# Altium schematic symbol library ICs.SchLib: 134 symbols (part 4 of 7)
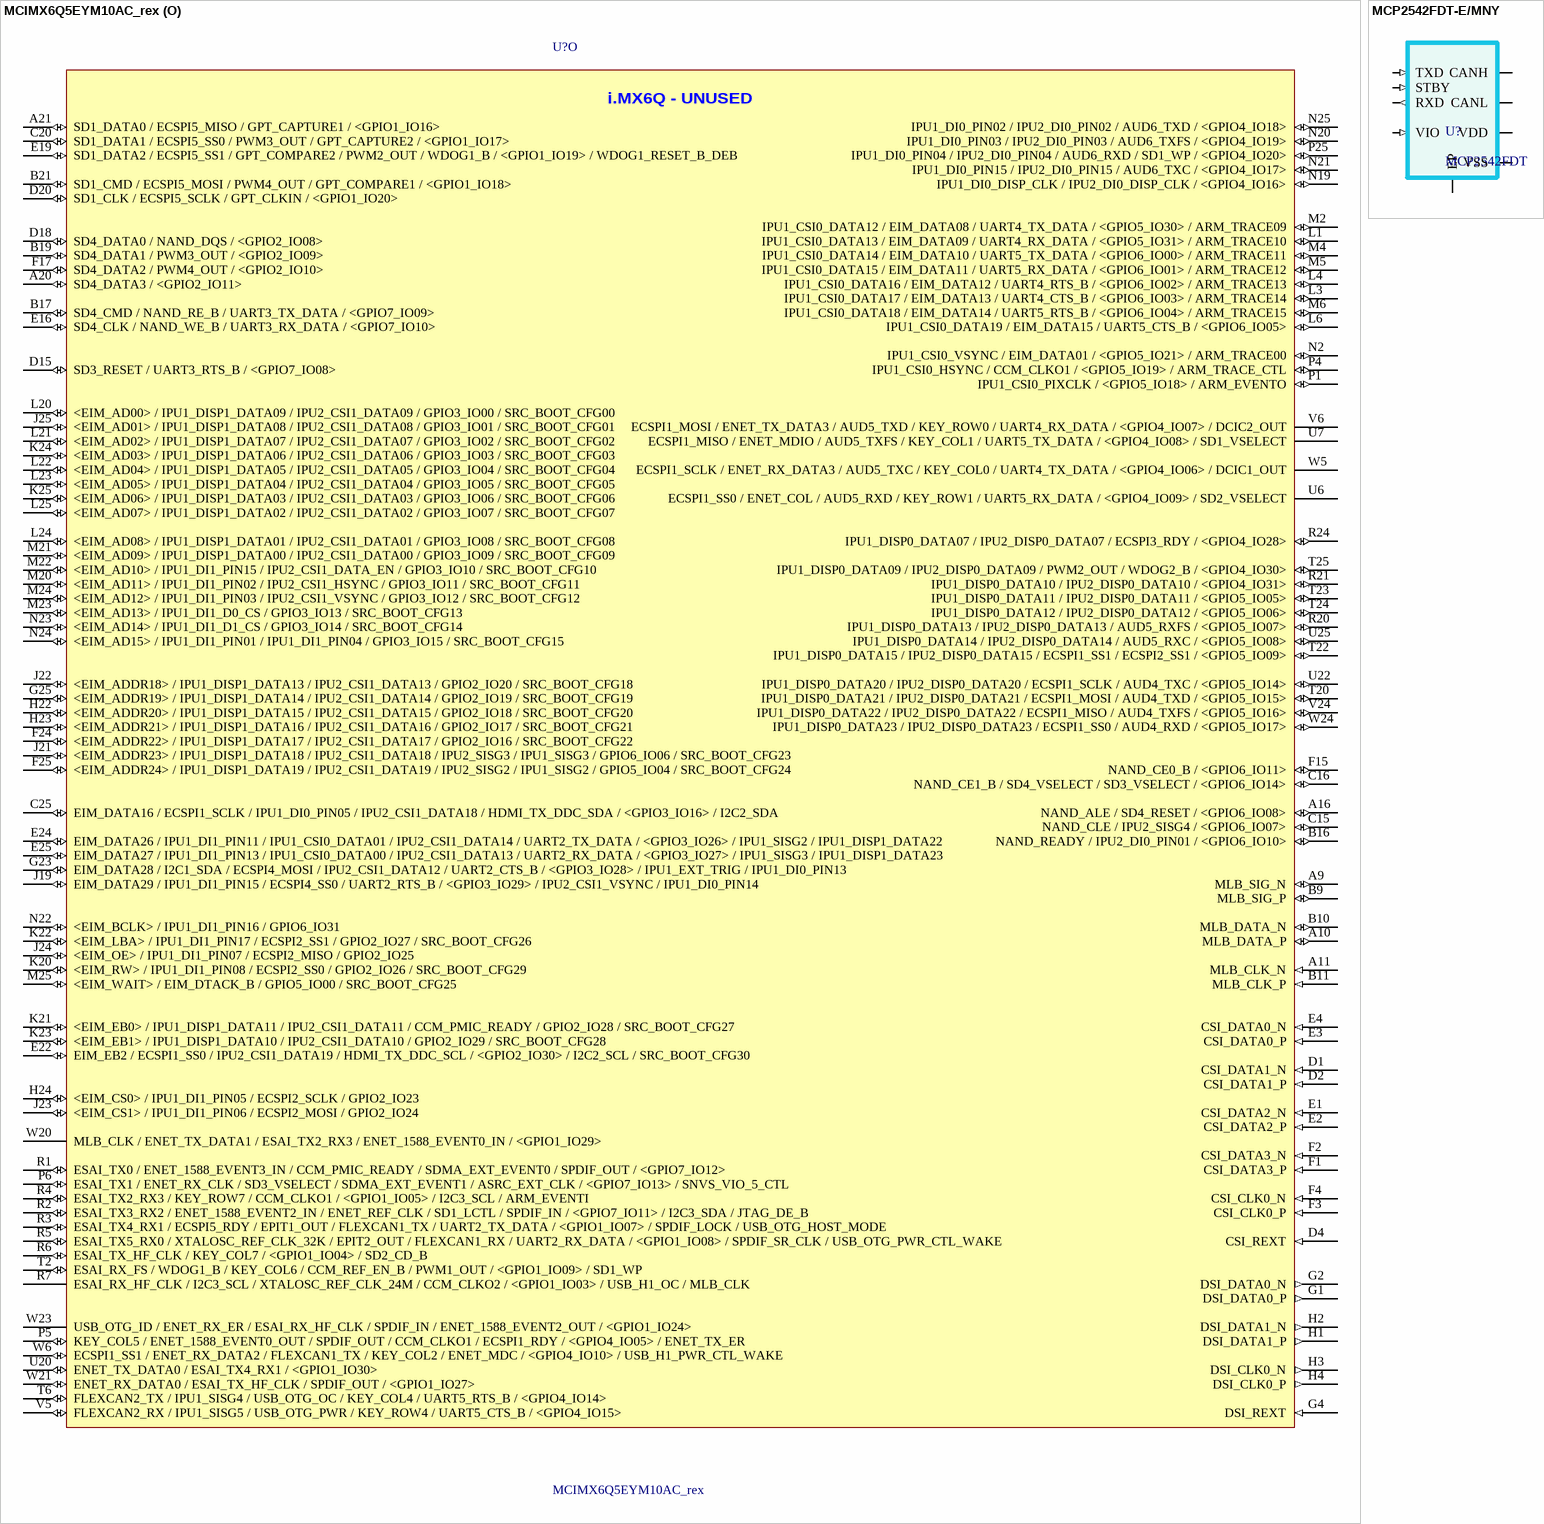
[diagram p29: symbols MCIMX6Q5EYM10AC_rex to MCP2542FDT-E/MNY]

## MCIMX6Q5EYM10AC_rex
designator U?
IC MCU 32BIT ARM QUAD 624FCBGA; Manufacturer: Freescale Semiconductor; Core Processor: ARM® Cortex™-A9; Core Size: 32-Bit Quad-Core; Speed: 1.0GHz; Connectivity: CAN, EBI/EMI, ESAI, Ethernet, GPMI, I2C, MMC/SD, PCI, SATA, SPI, UART, USB, USB OTG; Peripherals: DMA, HDMI, I2S/SSI/AC97, MIPI CSI, MIMI DSI, MIPI HIS, PWM, WDT; Number of I /O: 224; Program Memory Type: External Program Memory; RAM Size: 256K x 8; Voltage - Supply (Vcc/Vdd): 0.925 V ~ 1.5 V; Oscillator Type: Internal; .Creator: MM; .Checked PCB: MM, checked by RF; Number of Cores/Bus Width: 4 Core, 32-Bit; Co-Processors/DSP: Multimedia; NEON™ SIMD; RAM Controllers: LPDDR2, LVDDR3, DDR3; Graphics Acceleration: Yes; Display & Interface Controllers: Keypad, LCD; Ethernet: 10/100/1000 Mbps (1); SATA: SATA 3Gbps (1); USB: USB 2.0 + PHY (4); Voltage - I/O: 1.8V, 2.5V, 2.8V, 3.3V; Security Features: ARM TZ, Boot Security, Cryptography, RTIC, Secure Fusebox, Secure JTAG, Secure Memory, Secure RTC, Tamper Detection; Additional Interfaces: CAN, I²C, I²S, MMC/SD/SDIO, SAI, SPI, SSI, UART; Supplier 1: Digi-Key; Manufacturer Part Number: MCIMX6Q5EYM10AC; RoHS: RoHS Compliant; Category: Integrated Circuits (ICs); Stock 1: 278; Pricing 1: 1=38.71, 10=36.432, 25=34.1556, 100=32.5614 (GBP); Program Memory Size: -; EEPROM Size: -; Data Converters: -; Operating Temperature: -20°C ~ 105°C; Package / Case: 624-FBGA, FCBGA; Packaging: Tray; ComponentLink1URL: http://cache.freescale.com/files/32bit/doc/data_sheet/IMX6DQCEC.pdf; ComponentLink1Description: http://cache.freescale.com/files/32bit/doc/data_sheet/IMX6DQCEC.pdf; Supplier Part Number 1: MCIMX6Q5EYM10AC-ND; .Checked SCH: MM; Part Status: Active; Supplier Device Package: 624-FCBGA (21x21)
footprint PBGA624
part A pins: A7 XTALOSC_XTALI, B7 XTALOSC_XTALO (out), C2 JTAG_TRSTB (in), C3 JTAG_TMS (in), C5 XTALOSC_CLK2_N (io), C9 XTALOSC_RTC_XTALO (out), C11 ~{SRC_POR}, C12 SRC_BOOT_MODE0, D5 XTALOSC_CLK2_P (io), D9 XTALOSC_RTC_XTALI, D11 SNVS_PMIC_ON_REQ (out), D12 SRC_ONOFF, E11 SNVS_TAMPER, E12 TCU_TEST_MODE, F11 CCM_PMIC_STBY_REQ (out), F12 SRC_BOOT_MODE1, G5 JTAG_TDI, G6 JTAG_TDO (out), G24 <EIM_ADDR17> / IPU1_DISP1_DATA12 / IPU2_CSI1_DATA12 / GPIO2_IO21 / SRC_BOOT_CFG17 (io), H5 JTAG_TCK, H6 JTAG_MOD, H19 <EIM_ADDR25> / ECSPI4_SS1 / ECSPI2_RDY / IPU1_DI1_PIN12 / IPU1_DI0_D1_CS / GPIO5_IO02 / HDMI_TX_CEC_LINE (io), H25 <EIM_ADDR16> / IPU1_DI1_DISP_CLK / IPU2_CSI1_PIXCLK / GPIO2_IO22 / SRC_BOOT_CFG16 (io), R22 IPU1_DISP0_DATA08 / IPU2_DISP0_DATA08 / PWM1_OUT / WDOG1_B / <GPIO4_IO29> (io), T1 ESAI_TX_FS / KEY_ROW6 / <GPIO1_IO02> / SD2_WP / MLB_DATA, U21 ENET_RX_EN / ESAI_TX_CLK / SPDIF_EXT_CLK / <GPIO1_IO25>
part B pins: A4 GND_3 (power), A5 FA_ANA (power), A8 GND_4 (power), A13 GND_1 (power), A25 GND_2 (power), AA7 GND_10 (power), AA10 GND_5 (power), AA13 GND_6 (power), AA16 GND_7 (power), AA19 GND_8 (power), AA22 GND_9 (power), AB3 GND_12 (power), AB24 GND_11 (power), AD4 GND_18 (power), AD7 GND_19 (power), AD10 GND_13 (power), AD13 GND_14 (power), AD16 GND_15 (power), AD19 GND_16 (power), AD22 GND_17 (power), AE1 GND_20 (power), AE25 GND_21 (power), B4 GND_22 (power), B5 VDD_FA (power), C1 GND_23 (power), C4 GND_25 (power), C6 GND_26 (power), C8 GPANAIO (power), C10 GND_24 (power), D3 GND_27 (power), D6 GND_28 (power), D8 GND_29 (power), E5 GND_30 (power), E6 GND_31 (power), E7 GND_32 (power), E8 NVCC_PLL_OUT (power), F5 GND_33 (power), F6 GND_34 (power), F7 GND_35 (power), F8 GND_36 (power), G3 GND_39 (power), G9 VDD_SNVS_CAP (power), G10 GND_37 (power), G11 VDD_SNVS_IN (power), G14 NVCC_SD3 (power), G15 NVCC_NANDF (power), G16 NVCC_SD1 (power), G17 NVCC_SD2 (power), G18 NVCC_RGMII (power), G19 GND_38 (power), H8 GND_43 (power), H9 VDDHIGH_IN_1 (power), H10 VDDHIGH_CAP_1 (power), H11 VDDARM23_CAP_1 (power), H12 GND_40 (power), H13 VDDARM_CAP_1 (power), H14 VDDARM_IN_1 (power), H15 GND_41 (power), H16 VDDSOC_IN_1 (power), H17 VDDPU_CAP_1 (power), H18 GND_42 (power), J2 GND_47 (power), J7 NVCC_JTAG (power), J8 GND_48 (power), J9 VDDHIGH_IN_2 (power), J10 VDDHIGH_CAP_2 (power), J11 VDDARM23_CAP_2 (power), J12 GND_44 (power), J13 VDDARM_CAP_2 (power), J14 VDDARM_IN_2 (power), J15 GND_45 (power), J16 VDDSOC_IN_2 (power), J17 VDDPU_CAP_2 (power), J18 GND_46 (power), K7 NVCC_MIPI (power), K8 GND_53 (power), K9 VDDARM23_IN_1 (power), K10 GND_49 (power), K11 VDDARM23_CAP_3 (power), K12 GND_50 (power), K13 VDDARM_CAP_3 (power), K14 VDDARM_IN_3 (power), K15 GND_51 (power), K16 VDDSOC_IN_3 (power), K17 VDDPU_CAP_3 (power), K18 GND_52 (power), K19 NVCC_EIM0 (power), L2 GND_58 (power), L5 GND_59 (power), L8 GND_60 (power), L9 VDDARM23_IN_2 (power), L10 GND_54 (power), L11 VDDARM23_CAP_4 (power), L12 GND_55 (power), L13 VDDARM_CAP_4 (power), L14 VDDARM_IN_4 (power), L15 GND_56 (power), L16 VDDSOC_IN_4 (power), L17 VDDPU_CAP_4 (power), L18 GND_57 (power), L19 NVCC_EIM1 (power), M8 GND_65 (power), M9 VDDARM23_IN_3 (power), M10 GND_61 (power), M11 VDDARM23_CAP_5 (power), M12 GND_62 (power), M13 VDDARM_CAP_5 (power), M14 VDDARM_IN_5 (power), M15 GND_63 (power), M16 VDDSOC_IN_5 (power), M17 VDDPU_CAP_5 (power), M18 GND_64 (power), M19 NVCC_EIM2 (power), N7 NVCC_CSI (power), N8 GND_69 (power), N9 VDDARM23_IN_4 (power), N10 GND_66 (power), N11 VDDARM23_CAP_6 (power), N12 VDD_CACHE_CAP (power), N13 VDDARM_CAP_6 (power), N14 VDDARM_IN_6 (power), N15 GND_67 (power), N16 VDDSOC_IN_6 (power), N17 VDDPU_CAP_6 (power), N18 GND_68 (power), P7 NVCC_GPIO (power), P8 GND_74 (power), P9 VDDARM23_IN_5 (power), P10 GND_70 (power), P11 VDDARM23_CAP_7 (power), P12 GND_71 (power), P13 VDDARM_CAP_7 (power), P14 VDDARM_IN_7 (power), P15 GND_72 (power), P16 VDDSOC_IN_7 (power), P17 VDDPU_CAP_7 (power), P18 GND_73 (power), P19 NVCC_LCD (power), R8 GND_78 (power), R9 VDDARM23_IN_6 (power), R10 VDDSOC_CAP_1 (power), R11 VDDARM23_CAP_8 (power), R12 GND_75 (power), R13 VDDARM_CAP_8 (power), R14 VDDARM_IN_8 (power), R15 GND_76 (power), R16 VDDSOC_IN_8 (power), R17 GND_77 (power), R19 NVCC_ENET (power), T8 GND_84 (power), T9 VDDARM23_IN_7 (power), T10 VDDSOC_CAP_2 (power), T11 GND_79 (power), T12 GND_80 (power), T13 VDDSOC_CAP_3 (power), T14 VDDSOC_CAP_4 (power), T15 GND_81 (power), T16 VDDSOC_IN_9 (power), T17 GND_82 (power), T19 GND_83 (power), U8 GND_89 (power), U9 VDDARM23_IN_8 (power), U10 VDDSOC_CAP_5 (power), U11 GND_85 (power), U12 GND_86 (power), U13 VDDSOC_CAP_6 (power), U14 VDDSOC_CAP_7 (power), U15 GND_87 (power), U16 VDDSOC_IN_10 (power), U17 GND_88 (power), U19 GND_90 (power), V8 GND_91 (power), V19 GND_92 (power), W3 GND_93 (power), W7 GND_94 (power), W8 GND_95 (power), W9 GND_96 (power), W10 GND_97 (power), W11 GND_98 (power), W12 GND_99 (power), W13 GND_100 (power), W15 GND_101 (power), W16 GND_102 (power), W17 GND_103 (power), W18 GND_104 (power), W19 GND_105 (power), Y5 GND_106 (power), Y24 GND_107 (power)
part C pins: AA5 DRAM_D3 (io), AA6 DRAM_D10 (io), AA8 DRAM_D17 (io), AA9 DRAM_D23 (io), AA11 DRAM_SDCKE1 (out), AA12 DRAM_A14 (out), AA14 DRAM_A2 (out), AA15 DRAM_A10 (out), AA17 DRAM_D32 (io), AA18 DRAM_D33 (io), AA20 DRAM_D45 (io), AA21 DRAM_D57 (io), AA23 DRAM_D61 (io), AA24 ~{DRAM_SDQS7} (io), AA25 DRAM_SDQS7 (io), AB4 DRAM_D6 (io), AB5 DRAM_D12 (io), AB6 DRAM_D14 (io), AB7 DRAM_D16 (io), AB8 DRAM_DQM2 (out), AB9 DRAM_D18 (io), AB10 ~{DRAM_SDQS3} (io), AB11 DRAM_D27 (io), AB12 DRAM_SDBA2 (out), AB13 DRAM_A8 (out), AB14 DRAM_A1 (out), AB15 DRAM_RAS (out), AB16 DRAM_SDWE (out), AB17 DRAM_SDODT1 (out), AB18 DRAM_DQM4 (out), AB19 DRAM_D38 (io), AB20 DRAM_D41 (io), AB21 DRAM_D42 (io), AB22 DRAM_D52 (io), AB23 DRAM_D60 (io), AB25 DRAM_D56 (io), AC1 DRAM_D4 (io), AC2 DRAM_VREF (power), AC3 DRAM_DQM0 (out), AC4 DRAM_D2 (io), AC5 DRAM_D13 (io), AC6 DRAM_DQM1 (out), AC7 DRAM_D15 (io), AC8 DRAM_D22 (io), AC9 DRAM_D28 (io), AC10 DRAM_SDQS3 (io), AC11 DRAM_D31 (io), AC12 DRAM_A11 (out), AC13 DRAM_A6 (out), AC14 DRAM_A0 (out), AC15 DRAM_SDBA0 (out), AC16 DRAM_SDODT0 (out), AC17 DRAM_A13 (out), AC18 DRAM_D34 (io), AC19 DRAM_D39 (io), AC20 DRAM_DQM5 (out), AC21 DRAM_D47 (io), AC22 DRAM_D48 (io), AC23 DRAM_D53 (io), AC24 DRAM_D51 (io), AC25 DRAM_D55 (io), AD1 DRAM_D5 (io), AD2 DRAM_D0 (io), AD3 ~{DRAM_SDQS0} (io), AD5 DRAM_D8 (io), AD6 DRAM_SDQS1 (io), AD8 DRAM_SDQS2 (io), AD9 DRAM_D29 (io), AD11 DRAM_D30 (io), AD12 DRAM_A12 (out), AD14 DRAM_SDCLK_1 (out), AD15 DRAM_SDCLK_0 (out), AD17 DRAM_CS1 (out), AD18 DRAM_SDQS4 (io), AD20 DRAM_SDQS5 (io), AD21 DRAM_D43 (io), AD23 DRAM_SDQS6 (io), AD24 DRAM_DQM6 (out), AD25 DRAM_D54 (io), AE2 DRAM_D1 (io), AE3 DRAM_SDQS0 (io), AE4 DRAM_D7 (io), AE5 DRAM_D9 (io), AE6 ~{DRAM_SDQS1} (io), AE7 DRAM_D11 (io), AE8 ~{DRAM_SDQS2} (io), AE9 DRAM_D24 (io), AE10 DRAM_DQM3 (out), AE11 DRAM_D26 (io), AE12 DRAM_A9 (out), AE13 DRAM_A5 (out), AE14 ~{DRAM_SDCLK_1} (out), AE15 ~{DRAM_SDCLK_0} (out), AE16 DRAM_CAS (out), AE17 ZQPAD, AE18 ~{DRAM_SDQS4} (io), AE19 DRAM_D35 (io), AE20 ~{DRAM_SDQS5} (io), AE21 DRAM_D46 (io), AE22 DRAM_D49 (io), AE23 ~{DRAM_SDQS6} (io), AE24 DRAM_D50 (io), R18 NVCC_DRAM_1 (power), T18 NVCC_DRAM_2 (power), U18 NVCC_DRAM_3 (power), V9 NVCC_DRAM_13 (power), V10 NVCC_DRAM_4 (power), V11 NVCC_DRAM_5 (power), V12 NVCC_DRAM_6 (power), V13 NVCC_DRAM_7 (power), V14 NVCC_DRAM_8 (power), V15 NVCC_DRAM_9 (power), V16 NVCC_DRAM_10 (power), V17 NVCC_DRAM_11 (power), V18 NVCC_DRAM_12 (power), W14 DRAM_A4 (out), W25 DRAM_D63 (io), Y6 DRAM_RESET (out), Y7 DRAM_D20 (io), Y8 DRAM_D21 (io), Y9 DRAM_D19 (io), Y10 DRAM_D25 (io), Y11 DRAM_SDCKE0 (out), Y12 DRAM_A15 (out), Y13 DRAM_A7 (out), Y14 DRAM_A3 (out), Y15 DRAM_SDBA1 (out), Y16 DRAM_CS0 (out), Y17 DRAM_D36 (io), Y18 DRAM_D37 (io), Y19 DRAM_D40 (io), Y20 DRAM_D44 (io), Y21 DRAM_DQM7 (out), Y22 DRAM_D59 (io), Y23 DRAM_D62 (io), Y25 DRAM_D58 (io)
part D pins: A12 SATA_PHY_TX_P (out), A14 SATA_PHY_RX_N, B12 SATA_PHY_TX_N (out), B14 SATA_PHY_RX_P, C14 SATA_REXT, G12 SATA_VPH (power), G13 SATA_VP (power)
part E pins: A6 USB_OTG_DP (io), B6 USB_OTG_DN (io), B8 ~{USB_OTG_CHD} (out), D10 USB_H1_VBUS (power), E9 USB_OTG_VBUS (power), E10 USB_H1_DP (io), E23 EIM_DATA22 / ECSPI4_MISO / IPU1_DI0_PIN01 / IPU2_CSI1_DATA10 / USB_OTG_PWR / <GPIO3_IO22> / SPDIF_OUT, F9 VDDUSB_CAP (power), F10 USB_H1_DN (io), H20 EIM_DATA21 / ECSPI4_SCLK / IPU1_DI0_PIN17 / IPU2_CSI1_DATA11 / USB_OTG_OC / <GPIO3_IO21> / I2C1_SCL / SPDIF_IN, H21 EIM_DATA31 / IPU1_DISP1_DATA20 / IPU1_DI0_PIN12 / IPU1_CSI0_DATA02 / UART3_RTS_B / <GPIO3_IO31> / USB_H1_PWR, J20 EIM_DATA30 / IPU1_DISP1_DATA21 / IPU1_DI0_PIN11 / IPU1_CSI0_DATA03 / UART3_CTS_B / <GPIO3_IO30> / USB_H1_OC, T4 ESAI_RX_CLK / WDOG2_B / KEY_ROW5 / USB_OTG_ID / PWM2_OUT / <GPIO1_IO01> / SD1_CD_B
part F pins: A17 NAND_CE2_B / IPU1_SISG0 / ESAI_TX0 / EIM_CRE / CCM_CLKO2 / <GPIO6_IO15> / IPU2_SISG0, AA1 LVDS1_DATA1_P (out), AA2 LVDS1_DATA1_N (out), AA3 LVDS1_DATA3_N (out), AA4 LVDS1_DATA3_P (out), AB1 LVDS1_DATA2_N (out), AB2 LVDS1_DATA2_P (out), D24 EIM_DATA18 / ECSPI1_MOSI / IPU1_DI0_PIN07 / IPU2_CSI1_DATA17 / IPU1_DI1_D0_CS / <GPIO3_IO18> / I2C3_SDA (io), F18 SD1_DATA3 / ECSPI5_SS2 / GPT_COMPARE3 / PWM1_OUT / WDOG2_B / <GPIO1_IO21> / WDOG2_RESET_B_DEB, F21 EIM_DATA17 / ECSPI1_MISO / IPU1_DI0_PIN06 / IPU2_CSI1_PIXCLK / DCIC1_OUT / <GPIO3_IO17> / I2C3_SCL, U1 LVDS0_DATA0_P (out), U2 LVDS0_DATA0_N (out), U3 LVDS0_DATA1_P (out), U4 LVDS0_DATA1_N (out), V1 LVDS0_DATA2_P (out), V2 LVDS0_DATA2_N (out), V3 LVDS0_CLK_P (out), V4 LVDS0_CLK_N (out), V7 NVCC_LVDS2P5 (power), W1 LVDS0_DATA3_P (out), W2 LVDS0_DATA3_N (out), Y1 LVDS1_DATA0_N (out), Y2 LVDS1_DATA0_P (out), Y3 LVDS1_CLK_N (out), Y4 LVDS1_CLK_P (out)
part G pins: J1 HDMI_REF, J3 HDMI_TX_DATA1_N (out), J4 HDMI_TX_DATA1_P (out), J5 HDMI_TX_CLK_N (out), J6 HDMI_TX_CLK_P (out), K1 HDMI_TX_HPD (in), K2 HDMI_TX_DDC_CEC (io), K3 HDMI_TX_DATA2_N (out), K4 HDMI_TX_DATA2_P (out), K5 HDMI_TX_DATA0_N (out), K6 HDMI_TX_DATA0_P (out), L7 HDMI_VP (power), M7 HDMI_VPH (power), T7 ASRC_EXT_CLK / HDMI_TX_DDC_SDA / KEY_ROW3 / I2C2_SDA / <GPIO4_IO13> / SD1_VSELECT (io), U5 ECSPI1_SS3 / ENET_CRS / HDMI_TX_DDC_SCL / KEY_COL3 / I2C2_SCL / <GPIO4_IO12> / SPDIF_IN, W4 ECSPI1_SS2 / ENET_TX_DATA2 / FLEXCAN1_RX / KEY_ROW2 / SD2_VSELECT / <GPIO4_IO11> / HDMI_TX_CEC_LINE (io)
part H pins: A24 HSI_RX_WAKE / RGMII_TD3 / <GPIO6_IO23> (out), B23 HSI_TX_FLAG / RGMII_RD1 / <GPIO6_IO27> (in), B24 HSI_TX_DATA / RGMII_RD2 / <GPIO6_IO28> (in), B25 USB_H3_STROBE / RGMII_RXC / <GPIO6_IO30> (in), C22 HSI_TX_READY / RGMII_TD0 / <GPIO6_IO20> (out), C23 USB_H2_STROBE / RGMII_TX_CTL / <GPIO6_IO26> / ENET_REF_CLK (out), C24 HSI_RX_READY / RGMII_RD0 / <GPIO6_IO25> (in), D21 USB_H2_DATA / RGMII_TXC / SPDIF_EXT_CLK / <GPIO6_IO19> / XTALOSC_REF_CLK_24M (out), D22 USB_H3_DATA / RGMII_RX_CTL / <GPIO6_IO24> (in), D23 HSI_TX_WAKE / RGMII_RD3 / <GPIO6_IO29> (in), E21 HSI_RX_DATA / RGMII_TD2 / <GPIO6_IO22> (out), F20 HSI_RX_FLAG / RGMII_TD1 / <GPIO6_IO21> (out), V20 MLB_DATA / ENET_MDC / ESAI_TX5_RX0 / ENET_1588_EVENT1_IN / <GPIO1_IO31>, V21 ENET_TX_EN / ESAI_TX3_RX2 / <GPIO1_IO28> (io), V22 ENET_TX_CLK / ESAI_RX_FS / <GPIO1_IO23> / SPDIF_SR_CLK, V23 ENET_MDIO / ESAI_RX_CLK / ENET_1588_EVENT1_OUT / <GPIO1_IO22> / SPDIF_LOCK (io), W22 MLB_SIG / ENET_RX_DATA1 / ESAI_TX_FS / ENET_1588_EVENT3_OUT / <GPIO1_IO26>
part I pins: A2 PCIE_REXT, A3 PCIE_TX_N (out), B1 PCIE_RX_N (in), B2 PCIE_RX_P (in), B3 PCIE_TX_P (out), C7 XTALOSC_CLK1_N (io), D7 XTALOSC_CLK1_P (io), G7 PCIE_VPH (power), G8 PCIE_VPTX (power), H7 PCIE_VP (power), P3 IPU1_CSI0_DATA_EN / EIM_DATA00 / <GPIO5_IO20> / ARM_TRACE_CLK
part J pins: A19 NAND_DATA04 / SD2_DATA4 / <GPIO2_IO04> (io), A22 SD2_DATA0 / ECSPI5_MISO / AUD4_RXD / KEY_ROW7 / <GPIO1_IO15> / DCIC2_OUT (io), A23 SD2_DATA2 / ECSPI5_SS1 / EIM_CS3 / AUD4_TXD / KEY_ROW6 / <GPIO1_IO13> (io), B18 NAND_DATA05 / SD2_DATA5 / <GPIO2_IO05> (io), B22 SD2_DATA3 / ECSPI5_SS3 / KEY_COL6 / AUD4_TXC / <GPIO1_IO12> (io), C18 NAND_DATA07 / SD2_DATA7 / <GPIO2_IO07> (io), C21 SD2_CLK / ECSPI5_SCLK / KEY_COL5 / AUD4_RXFS / <GPIO1_IO10>, D17 NAND_DATA03 / SD1_DATA7 / <GPIO2_IO03>, E17 NAND_DATA06 / SD2_DATA6 / <GPIO2_IO06> (io), E20 SD2_DATA1 / ECSPI5_SS0 / EIM_CS2 / AUD4_TXFS / KEY_COL7 / <GPIO1_IO14> (io), F16 NAND_DATA02 / SD1_DATA6 / <GPIO2_IO02>, F19 SD2_CMD / ECSPI5_MOSI / KEY_ROW5 / AUD4_RXC / <GPIO1_IO11> (io), T3 ESAI_TX_CLK / I2C3_SDA / <GPIO1_IO06> / SD2_LCTL / MLB_SIG
part K pins: A15 SD3_DATA2 / <GPIO7_IO06> (io), A18 NAND_DATA00 / SD1_DATA4 / <GPIO2_IO00>, B13 SD3_CMD / UART2_CTS_B / FLEXCAN1_TX / <GPIO7_IO02> (io), B15 SD3_DATA3 / UART3_CTS_B / <GPIO7_IO07> (io), C13 SD3_DATA5 / UART2_TX_DATA / <GPIO7_IO00> (io), C17 NAND_DATA01 / SD1_DATA5 / <GPIO2_IO01>, D13 SD3_DATA4 / UART2_RX_DATA / <GPIO7_IO01> (io), D14 SD3_CLK / UART2_RTS_B / FLEXCAN1_RX / <GPIO7_IO03>, E13 SD3_DATA6 / UART1_RX_DATA / <GPIO6_IO18> (io), E14 SD3_DATA0 / UART1_CTS_B / FLEXCAN2_TX / <GPIO7_IO04> (io), F13 SD3_DATA7 / UART1_TX_DATA / <GPIO6_IO17> (io), F14 SD3_DATA1 / UART1_RTS_B / FLEXCAN2_RX / <GPIO7_IO05> (io)
part L pins: D16 NAND_CE3_B / IPU1_SISG1 / ESAI_TX1 / EIM_ADDR26 / <GPIO6_IO16> / IPU2_SISG1 (io), E15 NAND_WP_B / IPU2_SISG5 / <GPIO6_IO09>, P20 IPU1_DISP0_DATA04 / IPU2_DISP0_DATA04 / ECSPI3_SS1 / <GPIO4_IO25> (io), P21 IPU1_DISP0_DATA03 / IPU2_DISP0_DATA03 / ECSPI3_SS0 / <GPIO4_IO24> (io), P22 IPU1_DISP0_DATA01 / IPU2_DISP0_DATA01 / ECSPI3_MOSI / <GPIO4_IO22>, P23 IPU1_DISP0_DATA02 / IPU2_DISP0_DATA02 / ECSPI3_MISO / <GPIO4_IO23>, P24 IPU1_DISP0_DATA00 / IPU2_DISP0_DATA00 / ECSPI3_SCLK / <GPIO4_IO21> (io), R23 IPU1_DISP0_DATA06 / IPU2_DISP0_DATA06 / ECSPI3_SS3 / AUD6_RXC / <GPIO4_IO27> (io), R25 IPU1_DISP0_DATA05 / IPU2_DISP0_DATA05 / ECSPI3_SS2 / AUD6_RXFS / <GPIO4_IO26>, T21 IPU1_DISP0_DATA16 / IPU2_DISP0_DATA16 / ECSPI2_MOSI / AUD5_TXC / SDMA_EXT_EVENT0 / <GPIO5_IO10>, U23 IPU1_DISP0_DATA19 / IPU2_DISP0_DATA19 / ECSPI2_SCLK / AUD5_RXD / AUD4_RXC / <GPIO5_IO13> / EIM_CS3, U24 IPU1_DISP0_DATA17 / IPU2_DISP0_DATA17 / ECSPI2_MISO / AUD5_TXD / SDMA_EXT_EVENT1 / <GPIO5_IO11>, V25 IPU1_DISP0_DATA18 / IPU2_DISP0_DATA18 / ECSPI2_SS0 / AUD5_TXFS / AUD4_RXFS / <GPIO5_IO12> / EIM_CS2
part M pins: B20 SD4_DATA6 / UART2_CTS_B / <GPIO2_IO14>, C19 SD4_DATA5 / UART2_RTS_B / <GPIO2_IO13>, D19 SD4_DATA7 / UART2_TX_DATA / <GPIO2_IO15>, D25 EIM_DATA23 / IPU1_DI0_D0_CS / UART3_CTS_B / UART1_DCD_B / IPU2_CSI1_DATA_EN / <GPIO3_IO23> / IPU1_DI1_PIN02 / IPU1_DI1_PIN14, E18 SD4_DATA4 / UART2_RX_DATA / <GPIO2_IO12>, F22 EIM_DATA24 / ECSPI4_SS2 / UART3_TX_DATA / ECSPI1_SS2 / ECSPI2_SS2 / <GPIO3_IO24> / AUD5_RXFS / UART1_DTR_B, F23 EIM_EB3 / ECSPI4_RDY / UART3_RTS_B / UART1_RI_B / IPU2_CSI1_HSYNC / <GPIO2_IO31> / IPU1_DI1_PIN03 / SRC_BOOT_CFG31, G20 EIM_DATA20 / ECSPI4_SS0 / IPU1_DI0_PIN16 / IPU2_CSI1_DATA15 / UART1_RTS_B / <GPIO3_IO20> / EPIT2_OUT, G21 EIM_DATA19 / ECSPI1_SS1 / IPU1_DI0_PIN08 / IPU2_CSI1_DATA16 / UART1_CTS_B / <GPIO3_IO19> / EPIT1_OUT, G22 EIM_DATA25 / ECSPI4_SS3 / UART3_RX_DATA / ECSPI1_SS3 / ECSPI2_SS3 / <GPIO3_IO25> / AUD5_RXC / UART1_DSR_B, M1 IPU1_CSI0_DATA10 / AUD3_RXC / ECSPI2_MISO / UART1_TX_DATA / <GPIO5_IO28> / ARM_TRACE07, M3 IPU1_CSI0_DATA11 / AUD3_RXFS / ECSPI2_SS0 / UART1_RX_DATA / <GPIO5_IO29> / ARM_TRACE08
part N pins: N1 IPU1_CSI0_DATA04 / EIM_DATA02 / ECSPI1_SCLK / KEY_COL5 / AUD3_TXC / <GPIO5_IO22> / ARM_TRACE01, N3 IPU1_CSI0_DATA07 / EIM_DATA05 / ECSPI1_SS0 / KEY_ROW6 / AUD3_RXD / <GPIO5_IO25> / ARM_TRACE04, N4 IPU1_CSI0_DATA06 / EIM_DATA04 / ECSPI1_MISO / KEY_COL6 / AUD3_TXFS / <GPIO5_IO24> / ARM_TRACE03, N5 IPU1_CSI0_DATA09 / EIM_DATA07 / ECSPI2_MOSI / KEY_ROW7 / I2C1_SCL / <GPIO5_IO27> / ARM_TRACE06, N6 IPU1_CSI0_DATA08 / EIM_DATA06 / ECSPI2_SCLK / KEY_COL7 / I2C1_SDA / <GPIO5_IO26> / ARM_TRACE05 (io), P2 IPU1_CSI0_DATA05 / EIM_DATA03 / ECSPI1_MOSI / KEY_ROW5 / AUD3_TXD / <GPIO5_IO23> / ARM_TRACE02, T5 CCM_CLKO1 / KEY_COL5 / ASRC_EXT_CLK / EPIT1_OUT / <GPIO1_IO00> / USB_H1_PWR / SNVS_VIO_5
part O pins: A9 MLB_SIG_N (io), A10 MLB_DATA_P (io), A11 MLB_CLK_N (in), A16 NAND_ALE / SD4_RESET / <GPIO6_IO08> (io), A20 SD4_DATA3 / <GPIO2_IO11> (io), A21 SD1_DATA0 / ECSPI5_MISO / GPT_CAPTURE1 / <GPIO1_IO16> (io), B9 MLB_SIG_P (io), B10 MLB_DATA_N (io), B11 MLB_CLK_P (in), B16 NAND_READY / IPU2_DI0_PIN01 / <GPIO6_IO10> (io), B17 SD4_CMD / NAND_RE_B / UART3_TX_DATA / <GPIO7_IO09> (io), B19 SD4_DATA1 / PWM3_OUT / <GPIO2_IO09> (io), B21 SD1_CMD / ECSPI5_MOSI / PWM4_OUT / GPT_COMPARE1 / <GPIO1_IO18> (io), C15 NAND_CLE / IPU2_SISG4 / <GPIO6_IO07> (io), C16 NAND_CE1_B / SD4_VSELECT / SD3_VSELECT / <GPIO6_IO14> (io), C20 SD1_DATA1 / ECSPI5_SS0 / PWM3_OUT / GPT_CAPTURE2 / <GPIO1_IO17> (io), C25 EIM_DATA16 / ECSPI1_SCLK / IPU1_DI0_PIN05 / IPU2_CSI1_DATA18 / HDMI_TX_DDC_SDA / <GPIO3_IO16> / I2C2_SDA (io), D1 CSI_DATA1_N (in), D2 CSI_DATA1_P (in), D4 CSI_REXT (in), D15 SD3_RESET / UART3_RTS_B / <GPIO7_IO08> (io), D18 SD4_DATA0 / NAND_DQS / <GPIO2_IO08> (io), D20 SD1_CLK / ECSPI5_SCLK / GPT_CLKIN / <GPIO1_IO20> (io), E1 CSI_DATA2_N (in), E2 CSI_DATA2_P (in), E3 CSI_DATA0_P (in), E4 CSI_DATA0_N (in), E16 SD4_CLK / NAND_WE_B / UART3_RX_DATA / <GPIO7_IO10> (io), E19 SD1_DATA2 / ECSPI5_SS1 / GPT_COMPARE2 / PWM2_OUT / WDOG1_B / <GPIO1_IO19> / WDOG1_RESET_B_DEB (io), E22 EIM_EB2 / ECSPI1_SS0 / IPU2_CSI1_DATA19 / HDMI_TX_DDC_SCL / <GPIO2_IO30> / I2C2_SCL / SRC_BOOT_CFG30 (io), E24 EIM_DATA26 / IPU1_DI1_PIN11 / IPU1_CSI0_DATA01 / IPU2_CSI1_DATA14 / UART2_TX_DATA / <GPIO3_IO26> / IPU1_SISG2 / IPU1_DISP1_DATA22 (io), E25 EIM_DATA27 / IPU1_DI1_PIN13 / IPU1_CSI0_DATA00 / IPU2_CSI1_DATA13 / UART2_RX_DATA / <GPIO3_IO27> / IPU1_SISG3 / IPU1_DISP1_DATA23 (io), F1 CSI_DATA3_P (in), F2 CSI_DATA3_N (in), F3 CSI_CLK0_P (in), F4 CSI_CLK0_N (in), F15 NAND_CE0_B / <GPIO6_IO11> (io), F17 SD4_DATA2 / PWM4_OUT / <GPIO2_IO10> (io), F24 <EIM_ADDR22> / IPU1_DISP1_DATA17 / IPU2_CSI1_DATA17 / GPIO2_IO16 / SRC_BOOT_CFG22 (io), F25 <EIM_ADDR24> / IPU1_DISP1_DATA19 / IPU2_CSI1_DATA19 / IPU2_SISG2 / IPU1_SISG2 / GPIO5_IO04 / SRC_BOOT_CFG24 (io), G1 DSI_DATA0_P (out), G2 DSI_DATA0_N (out), G4 DSI_REXT (in), G23 EIM_DATA28 / I2C1_SDA / ECSPI4_MOSI / IPU2_CSI1_DATA12 / UART2_CTS_B / <GPIO3_IO28> / IPU1_EXT_TRIG / IPU1_DI0_PIN13 (io), G25 <EIM_ADDR19> / IPU1_DISP1_DATA14 / IPU2_CSI1_DATA14 / GPIO2_IO19 / SRC_BOOT_CFG19 (io), H1 DSI_DATA1_P (out), H2 DSI_DATA1_N (out), H3 DSI_CLK0_N (out), H4 DSI_CLK0_P (out), H22 <EIM_ADDR20> / IPU1_DISP1_DATA15 / IPU2_CSI1_DATA15 / GPIO2_IO18 / SRC_BOOT_CFG20 (io), H23 <EIM_ADDR21> / IPU1_DISP1_DATA16 / IPU2_CSI1_DATA16 / GPIO2_IO17 / SRC_BOOT_CFG21 (io), H24 <EIM_CS0> / IPU1_DI1_PIN05 / ECSPI2_SCLK / GPIO2_IO23 (io), J19 EIM_DATA29 / IPU1_DI1_PIN15 / ECSPI4_SS0 / UART2_RTS_B / <GPIO3_IO29> / IPU2_CSI1_VSYNC / IPU1_DI0_PIN14 (io), J21 <EIM_ADDR23> / IPU1_DISP1_DATA18 / IPU2_CSI1_DATA18 / IPU2_SISG3 / IPU1_SISG3 / GPIO6_IO06 / SRC_BOOT_CFG23 (io), J22 <EIM_ADDR18> / IPU1_DISP1_DATA13 / IPU2_CSI1_DATA13 / GPIO2_IO20 / SRC_BOOT_CFG18 (io), J23 <EIM_CS1> / IPU1_DI1_PIN06 / ECSPI2_MOSI / GPIO2_IO24 (io), J24 <EIM_OE> / IPU1_DI1_PIN07 / ECSPI2_MISO / GPIO2_IO25 (io), J25 <EIM_AD01> / IPU1_DISP1_DATA08 / IPU2_CSI1_DATA08 / GPIO3_IO01 / SRC_BOOT_CFG01 (io), K20 <EIM_RW> / IPU1_DI1_PIN08 / ECSPI2_SS0 / GPIO2_IO26 / SRC_BOOT_CFG29 (io), K21 <EIM_EB0> / IPU1_DISP1_DATA11 / IPU2_CSI1_DATA11 / CCM_PMIC_READY / GPIO2_IO28 / SRC_BOOT_CFG27 (io), K22 <EIM_LBA> / IPU1_DI1_PIN17 / ECSPI2_SS1 / GPIO2_IO27 / SRC_BOOT_CFG26 (io), K23 <EIM_EB1> / IPU1_DISP1_DATA10 / IPU2_CSI1_DATA10 / GPIO2_IO29 / SRC_BOOT_CFG28 (io), K24 <EIM_AD03> / IPU1_DISP1_DATA06 / IPU2_CSI1_DATA06 / GPIO3_IO03 / SRC_BOOT_CFG03 (io), K25 <EIM_AD06> / IPU1_DISP1_DATA03 / IPU2_CSI1_DATA03 / GPIO3_IO06 / SRC_BOOT_CFG06 (io), L1 IPU1_CSI0_DATA13 / EIM_DATA09 / UART4_RX_DATA / <GPIO5_IO31> / ARM_TRACE10 (io), L3 IPU1_CSI0_DATA17 / EIM_DATA13 / UART4_CTS_B / <GPIO6_IO03> / ARM_TRACE14 (io), L4 IPU1_CSI0_DATA16 / EIM_DATA12 / UART4_RTS_B / <GPIO6_IO02> / ARM_TRACE13 (io), L6 IPU1_CSI0_DATA19 / EIM_DATA15 / UART5_CTS_B / <GPIO6_IO05> (io), L20 <EIM_AD00> / IPU1_DISP1_DATA09 / IPU2_CSI1_DATA09 / GPIO3_IO00 / SRC_BOOT_CFG00 (io), L21 <EIM_AD02> / IPU1_DISP1_DATA07 / IPU2_CSI1_DATA07 / GPIO3_IO02 / SRC_BOOT_CFG02 (io), L22 <EIM_AD04> / IPU1_DISP1_DATA05 / IPU2_CSI1_DATA05 / GPIO3_IO04 / SRC_BOOT_CFG04 (io), L23 <EIM_AD05> / IPU1_DISP1_DATA04 / IPU2_CSI1_DATA04 / GPIO3_IO05 / SRC_BOOT_CFG05 (io), L24 <EIM_AD08> / IPU1_DISP1_DATA01 / IPU2_CSI1_DATA01 / GPIO3_IO08 / SRC_BOOT_CFG08 (io), L25 <EIM_AD07> / IPU1_DISP1_DATA02 / IPU2_CSI1_DATA02 / GPIO3_IO07 / SRC_BOOT_CFG07 (io), M2 IPU1_CSI0_DATA12 / EIM_DATA08 / UART4_TX_DATA / <GPIO5_IO30> / ARM_TRACE09 (io), M4 IPU1_CSI0_DATA14 / EIM_DATA10 / UART5_TX_DATA / <GPIO6_IO00> / ARM_TRACE11 (io), M5 IPU1_CSI0_DATA15 / EIM_DATA11 / UART5_RX_DATA / <GPIO6_IO01> / ARM_TRACE12 (io), M6 IPU1_CSI0_DATA18 / EIM_DATA14 / UART5_RTS_B / <GPIO6_IO04> / ARM_TRACE15 (io), M20 <EIM_AD11> / IPU1_DI1_PIN02 / IPU2_CSI1_HSYNC / GPIO3_IO11 / SRC_BOOT_CFG11 (io), M21 <EIM_AD09> / IPU1_DISP1_DATA00 / IPU2_CSI1_DATA00 / GPIO3_IO09 / SRC_BOOT_CFG09 (io), M22 <EIM_AD10> / IPU1_DI1_PIN15 / IPU2_CSI1_DATA_EN / GPIO3_IO10 / SRC_BOOT_CFG10 (io), M23 <EIM_AD13> / IPU1_DI1_D0_CS / GPIO3_IO13 / SRC_BOOT_CFG13 (io), M24 <EIM_AD12> / IPU1_DI1_PIN03 / IPU2_CSI1_VSYNC / GPIO3_IO12 / SRC_BOOT_CFG12 (io), M25 <EIM_WAIT> / EIM_DTACK_B / GPIO5_IO00 / SRC_BOOT_CFG25 (io), N2 IPU1_CSI0_VSYNC / EIM_DATA01 / <GPIO5_IO21> / ARM_TRACE00 (io), N19 IPU1_DI0_DISP_CLK / IPU2_DI0_DISP_CLK / <GPIO4_IO16> (io), N20 IPU1_DI0_PIN03 / IPU2_DI0_PIN03 / AUD6_TXFS / <GPIO4_IO19> (io), N21 IPU1_DI0_PIN15 / IPU2_DI0_PIN15 / AUD6_TXC / <GPIO4_IO17> (io), N22 <EIM_BCLK> / IPU1_DI1_PIN16 / GPIO6_IO31 (io), N23 <EIM_AD14> / IPU1_DI1_D1_CS / GPIO3_IO14 / SRC_BOOT_CFG14 (io), N24 <EIM_AD15> / IPU1_DI1_PIN01 / IPU1_DI1_PIN04 / GPIO3_IO15 / SRC_BOOT_CFG15 (io), N25 IPU1_DI0_PIN02 / IPU2_DI0_PIN02 / AUD6_TXD / <GPIO4_IO18> (io), P1 IPU1_CSI0_PIXCLK / <GPIO5_IO18> / ARM_EVENTO (io), P4 IPU1_CSI0_HSYNC / CCM_CLKO1 / <GPIO5_IO19> / ARM_TRACE_CTL (io), P5 KEY_COL5 / ENET_1588_EVENT0_OUT / SPDIF_OUT / CCM_CLKO1 / ECSPI1_RDY / <GPIO4_IO05> / ENET_TX_ER (io), P6 ESAI_TX1 / ENET_RX_CLK / SD3_VSELECT / SDMA_EXT_EVENT1 / ASRC_EXT_CLK / <GPIO7_IO13> / SNVS_VIO_5_CTL (io), P25 IPU1_DI0_PIN04 / IPU2_DI0_PIN04 / AUD6_RXD / SD1_WP / <GPIO4_IO20> (io), R1 ESAI_TX0 / ENET_1588_EVENT3_IN / CCM_PMIC_READY / SDMA_EXT_EVENT0 / SPDIF_OUT / <GPIO7_IO12> (io), R2 ESAI_TX3_RX2 / ENET_1588_EVENT2_IN / ENET_REF_CLK / SD1_LCTL / SPDIF_IN / <GPIO7_IO11> / I2C3_SDA / JTAG_DE_B (io), R3 ESAI_TX4_RX1 / ECSPI5_RDY / EPIT1_OUT / FLEXCAN1_TX / UART2_TX_DATA / <GPIO1_IO07> / SPDIF_LOCK / USB_OTG_HOST_MODE (io), R4 ESAI_TX2_RX3 / KEY_ROW7 / CCM_CLKO1 / <GPIO1_IO05> / I2C3_SCL / ARM_EVENTI (io), R5 ESAI_TX5_RX0 / XTALOSC_REF_CLK_32K / EPIT2_OUT / FLEXCAN1_RX / UART2_RX_DATA / <GPIO1_IO08> / SPDIF_SR_CLK / USB_OTG_PWR_CTL_WAKE (io), R6 ESAI_TX_HF_CLK / KEY_COL7 / <GPIO1_IO04> / SD2_CD_B (io), R7 ESAI_RX_HF_CLK / I2C3_SCL / XTALOSC_REF_CLK_24M / CCM_CLKO2 / <GPIO1_IO03> / USB_H1_OC / MLB_CLK, R20 IPU1_DISP0_DATA13 / IPU2_DISP0_DATA13 / AUD5_RXFS / <GPIO5_IO07> (io), R21 IPU1_DISP0_DATA10 / IPU2_DISP0_DATA10 / <GPIO4_IO31> (io), R24 IPU1_DISP0_DATA07 / IPU2_DISP0_DATA07 / ECSPI3_RDY / <GPIO4_IO28> (io), T2 ESAI_RX_FS / WDOG1_B / KEY_COL6 / CCM_REF_EN_B / PWM1_OUT / <GPIO1_IO09> / SD1_WP (io), T6 FLEXCAN2_TX / IPU1_SISG4 / USB_OTG_OC / KEY_COL4 / UART5_RTS_B / <GPIO4_IO14> (io), T20 IPU1_DISP0_DATA21 / IPU2_DISP0_DATA21 / ECSPI1_MOSI / AUD4_TXD / <GPIO5_IO15> (io), T22 IPU1_DISP0_DATA15 / IPU2_DISP0_DATA15 / ECSPI1_SS1 / ECSPI2_SS1 / <GPIO5_IO09> (io), T23 IPU1_DISP0_DATA11 / IPU2_DISP0_DATA11 / <GPIO5_IO05> (io), T24 IPU1_DISP0_DATA12 / IPU2_DISP0_DATA12 / <GPIO5_IO06> (io), T25 IPU1_DISP0_DATA09 / IPU2_DISP0_DATA09 / PWM2_OUT / WDOG2_B / <GPIO4_IO30> (io), U6 ECSPI1_SS0 / ENET_COL / AUD5_RXD / KEY_ROW1 / UART5_RX_DATA / <GPIO4_IO09> / SD2_VSELECT, U7 ECSPI1_MISO / ENET_MDIO / AUD5_TXFS / KEY_COL1 / UART5_TX_DATA / <GPIO4_IO08> / SD1_VSELECT, U20 ENET_TX_DATA0 / ESAI_TX4_RX1 / <GPIO1_IO30> (io), U22 IPU1_DISP0_DATA20 / IPU2_DISP0_DATA20 / ECSPI1_SCLK / AUD4_TXC / <GPIO5_IO14> (io), U25 IPU1_DISP0_DATA14 / IPU2_DISP0_DATA14 / AUD5_RXC / <GPIO5_IO08> (io), V5 FLEXCAN2_RX / IPU1_SISG5 / USB_OTG_PWR / KEY_ROW4 / UART5_CTS_B / <GPIO4_IO15> (io), V6 ECSPI1_MOSI / ENET_TX_DATA3 / AUD5_TXD / KEY_ROW0 / UART4_RX_DATA / <GPIO4_IO07> / DCIC2_OUT, V24 IPU1_DISP0_DATA22 / IPU2_DISP0_DATA22 / ECSPI1_MISO / AUD4_TXFS / <GPIO5_IO16> (io), W5 ECSPI1_SCLK / ENET_RX_DATA3 / AUD5_TXC / KEY_COL0 / UART4_TX_DATA / <GPIO4_IO06> / DCIC1_OUT, W6 ECSPI1_SS1 / ENET_RX_DATA2 / FLEXCAN1_TX / KEY_COL2 / ENET_MDC / <GPIO4_IO10> / USB_H1_PWR_CTL_WAKE (io), W20 MLB_CLK / ENET_TX_DATA1 / ESAI_TX2_RX3 / ENET_1588_EVENT0_IN / <GPIO1_IO29>, W21 ENET_RX_DATA0 / ESAI_TX_HF_CLK / SPDIF_OUT / <GPIO1_IO27> (io), W23 USB_OTG_ID / ENET_RX_ER / ESAI_RX_HF_CLK / SPDIF_IN / ENET_1588_EVENT2_OUT / <GPIO1_IO24>, W24 IPU1_DISP0_DATA23 / IPU2_DISP0_DATA23 / ECSPI1_SS0 / AUD4_RXD / <GPIO5_IO17> (io)
part A text: i.MX6Q - CONTROL
part B text: i.MX6Q - POWER
part C text: i.MX6Q - DDR
part D text: i.MX6Q - SATA
part E text: i.MX6Q - USB
part F text: i.MX6Q - LVDS
part G text: i.MX6Q - HDMI
part H text: i.MX6Q - RGMII
part I text: i.MX6Q - PCIe
part J text: i.MX6Q - SD2
part K text: i.MX6Q - SD3
part L text: i.MX6Q - SPI, I2C; SPINOR; ECSPI2; I2C4
part M text: i.MX6Q - UART; NVCC_UART1; NVCC_UART2
part N text: i.MX6Q - AUDIO
part O text: i.MX6Q - UNUSED

## MCP2542FDT-E/MNY
designator U?, comment MCP2542FDT
CAN FD TRANSCEIVER; Manufacturer: Microchip Technology; Manufacturer Part Number: MCP2542FDT-E/MNY; Number of Drivers/Receivers: 1/1; Receiver Hysteresis: 200mV; Data Rate: 8Mbps; Voltage - Supply: 4.5 V ~ 5.5 V; Supplier 1: Digi-Key; Supplier Part Number 1: MCP2542FDT-E/MNYDKR-ND; RoHS: RoHS Compliant; Category: Integrated Circuits (ICs); Stock 1: 3300; Pricing 1: 1=0.73, 25=0.6112, 100=0.5573 (EUR); Packaging: Digi-Reel®; Part Status: Active; Type: Transceiver; Protocol: CAN; Duplex: -; Operating Temperature: -40°C ~ 125°C; Mounting Type: Surface Mount; Package / Case: 8-WFDFN Exposed Pad; Supplier Device Package: 8-TDFN (2x3); ComponentLink1URL: http://www.microchip.com/mymicrochip/filehandler.aspx?ddocname=en585412; ComponentLink1Description: http://www.microchip.com/mymicrochip/filehandler.aspx?ddocname=en585412
footprint SON50P300X80_HS-9N (SON, 8-Leads, Body 2.00x3.00mm, Pitch 0.50mm, Thermal Pad 1.40x0.68mm, IPC Medium Density)
pins: 1 TXD (in), 2 VSS (power), 3 VDD (power), 4 RXD (out), 5 VIO (in), 6 CANL (io), 7 CANH (io), 8 STBY (in), 9 EP

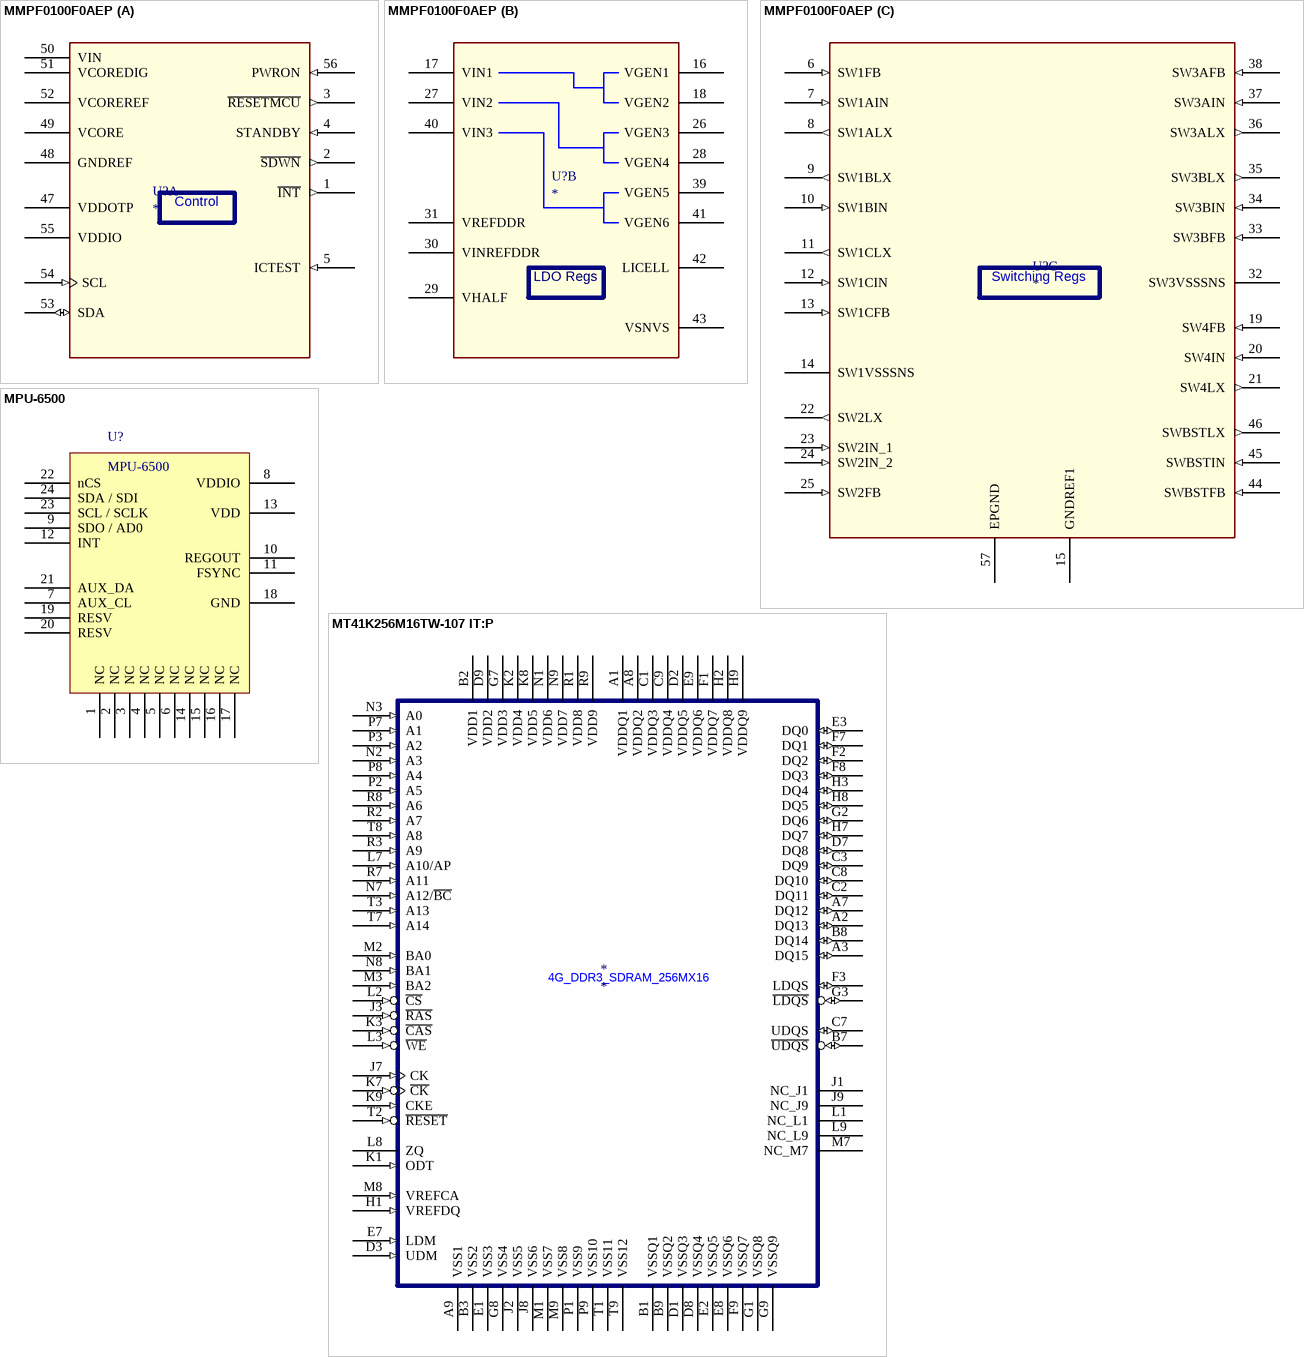
[diagram p20: symbols MMPF0100F0AEP to MT41K256M16TW-107 IT:P]

## MMPF0100F0AEP
designator U?
NXP - MMPF0100F0EP - PMIC, 14CH, 6BUCK, 6LIN REG, RTC, 56QFN; Supply Voltage: 4.5; No. of Step-Down DC - DC Converters: 7; No. of LDO Regulators: 6; No. of Regulated Outputs: 14; Digital IC Case: QFN; No. of Pins: 56; SVHC: No SVHC (17-Dec-2015); Processor Type: NXP i.MX6, i.MX35, i.MX37, i.MX50, i.MX51, i.MX53<!--FANDB--><div class="features-and-benefits-container"><div class="features-and-benefits-description"><span class="features-benefits-value">The MMPF0100F0EP is a Power Management Integrated Circuit (PMIC) provides a highly programmable/configurable architecture, with fully integrated power devices and minimal external components. With up to 6 buck converters, 6 linear regulators, RTC supply and coin-cell charger, this can provide power for a complete system, including applications processors, memory and system peripherals, in a wide range of applications. With on-chip One Time Programmable (OTP) memory, this is available in pre-programmed standard versions or non-programmed to support custom programming. This is defined to power an entire embedded MCU platform solution.</span></div><div class="features-and-benefits-list"><ul class="features-and-benefits-list-list"><li class="features-and-benefits-list-item">4 to 6 Buck converters, depending on configuration</li><li class="features-and-benefits-list-item">Boost regulator to 5V output</li><li class="features-and-benefits-list-item">6 General purpose linear regulators</li><li class="features-and-benefits-list-item">Programmable output voltage, sequence and timing</li><li class="features-and-benefits-list-item">OTP memory for device configuration</li><li class="features-and-benefits-list-item">Coin cell charger and RTC supply</li><li class="features-and-benefits-list-item">DDR termination reference voltage</li><li class="features-and-benefits-list-item">Individually programmable ON, OFF and Standby modes</li></ul></div><div class="features-and-benefits-warnings"><span class="features-benefits-value">ESD sensitive device, take proper precaution while handling the device.</span></div><div class="features-and-benefits-applications"><ul class="features-and-benefits-value"><li class="features-and-benefits-list-item">Consumer Electronics</li><li class="features-and-benefits-list-item">Industrial</li><li class="features-and-benefits-list-item">Medical</li><li class="features-and-benefits-list-item">Automation & Process Control</li></ul></div></div>; Brand: NXP / Freescale; Manufacturer: NXP; Manufacturer Part Number: MMPF0100F0EP; RoHS: YES; Operating Temperature Min: -40; Operating Temperature Max: 85; Packaging: Each; Product Range: -; MSL: MSL 3 - 168 hours; Supplier 1: Mouser; Category: PMIC Solutions; Stock 1: 6437; Pricing 1: 1=4.72, 10=4.46, 25=4.20, 100=3.15 (USD); Standard Pack Qty: 260; RoHS - Mouser: Y; Minimum Order Quantity: 1; Reeling: False; ComponentLink4URL: http://www.mouser.com/ds/2/302/MMPF0100-782984.pdf; ComponentLink4Description: http://www.mouser.com/ds/2/302/MMPF0100-782984.pdf; Supplier Part Number 1: 841-MMPF0100F0AEP
footprint QFN50P800X800X50_HS-57N (QFN, 56-Leads, Body 8.00x8.00mm, Pitch 0.50mm, Thermal Pad 4.10x4.40mm, IPC Medium Density)
part A pins: 1 ~{INT} (out), 2 ~{SDWN} (out), 3 ~{RESETMCU} (out), 4 STANDBY (in), 5 ICTEST (in), 47 VDDOTP (power), 48 GNDREF (power), 49 VCORE (power), 50 VIN (power), 51 VCOREDIG (power), 52 VCOREREF (power), 53 SDA (io), 54 SCL (in), 55 VDDIO (power), 56 PWRON (in)
part B pins: 16 VGEN1 (power), 17 VIN1 (power), 18 VGEN2 (power), 26 VGEN3 (power), 27 VIN2 (power), 28 VGEN4 (power), 29 VHALF (power), 30 VINREFDDR (power), 31 VREFDDR (power), 39 VGEN5 (power), 40 VIN3 (power), 41 VGEN6 (power), 42 LICELL (power), 43 VSNVS (power)
part C pins: 6 SW1FB (in), 7 SW1AIN (in), 8 SW1ALX (out), 9 SW1BLX (out), 10 SW1BIN (in), 11 SW1CLX (out), 12 SW1CIN (in), 13 SW1CFB (in), 14 SW1VSSSNS (power), 15 GNDREF1 (power), 19 SW4FB (in), 20 SW4IN (in), 21 SW4LX (out), 22 SW2LX (out), 23 SW2IN_1 (in), 24 SW2IN_2 (in), 25 SW2FB (in), 32 SW3VSSSNS (power), 33 SW3BFB (in), 34 SW3BIN (in), 35 SW3BLX (out), 36 SW3ALX (out), 37 SW3AIN (in), 38 SW3AFB (in), 44 SWBSTFB (in), 45 SWBSTIN (in), 46 SWBSTLX (out), 57 EPGND (power)
part A text: Control
part B text: LDO Regs
part C text: Switching Regs

## MPU-6500
designator U?
GYRO/ACCELEROMETER 6AXIS 24QFN; Manufacturer: InvenSense; Output Type: Digital; Sensor Type: Gyroscope and Accelerometer; ComponentLink1URL: http://media.digikey.com/pdf/Data%20Sheets/InvenSense%20PDFs/MPU-6500_Spec.pdf; ComponentLink1Description: http://media.digikey.com/pdf/Data%20Sheets/InvenSense%20PDFs/MPU-6500_Spec.pdf; Supplier 1: Digi-Key; Manufacturer Part Number: MPU-6500; RoHS: RoHS Compliant; Category: Sensors, Transducers; Stock 1: 33267; Pricing 1: 1=6.5, 5=5.736, 10=5.066, 25=4.1104, 50=3.6324, 100=3.5368, 500=2.9633, 1000=2.77211 (USD); Part Status: Not For New Designs; Operating Temperature: -40°C ~ 85°C (TA); ComponentLink2URL: https://www.invensense.com/wp-content/uploads/2015/02/MPU-6500-Datasheet2.pdf; ComponentLink2Description: https://www.invensense.com/wp-content/uploads/2015/02/MPU-6500-Datasheet2.pdf; Supplier Part Number 1: 1428-1011-1-ND
footprint QFN40P300X300X95_HS-25N (QFN, 24-Leads, Body 3,00x3,00mm, Pitch 0,40mm, Thermal Pad 1,70x1,54mm, IPC Medium Density)
pins: 1 NC, 2 NC, 3 NC, 4 NC, 5 NC, 6 NC, 7 AUX_CL, 8 VDDIO, 9 SDO / AD0, 10 REGOUT, 11 FSYNC, 12 INT, 13 VDD, 14 NC, 15 NC, 16 NC, 17 NC, 18 GND, 19 RESV, 20 RESV, 21 AUX_DA, 22 nCS, 23 SCL / SCLK, 24 SDA / SDI

## MT41K256M16TW-107 IT:P
designator *
DRAM Chip DDR3 SDRAM 4Gbit 256Mx16 1.35V; Manufacturer: Micron Technology; Manufacturer Part Number: MT41K256M16TW-107 IT:P; ID: 27709927; Supplier 1: Arrow; RoHS: : / :; Stock 1: 813; Pricing 1: 1=8.234, 10=7.92, 25=7.835, 50=7.752, 100=7.67 (USD); Package Quantity: 1; ComponentLink1URL: https://www.arrow.com/en/products/mt41k256m16tw-107itp/micron-technology/; ComponentLink1Description: https://www.arrow.com/en/products/mt41k256m16tw-107itp/micron-technology/
footprint BGA96C80P9X16_800X1400X120 (BGA, 96-Leads, Body 8.00x14.00mmx1.20mm, Pitch 0.80mm)
pins: A1 VDDQ1 (power), A2 DQ13 (io), A3 DQ15 (io), A7 DQ12 (io), A8 VDDQ2 (power), A9 VSS1 (power), B1 VSSQ1 (power), B2 VDD1 (power), B3 VSS2 (power), B7 ~{UDQS} (io), B8 DQ14 (io), B9 VSSQ2 (power), C1 VDDQ3 (power), C2 DQ11 (io), C3 DQ9 (io), C7 UDQS (io), C8 DQ10 (io), C9 VDDQ4 (power), D1 VSSQ3 (power), D2 VDDQ5 (power), D3 UDM (in), D7 DQ8 (io), D8 VSSQ4 (power), D9 VDD2 (power), E1 VSS3 (power), E2 VSSQ5 (power), E3 DQ0 (io), E7 LDM (in), E8 VSSQ6 (power), E9 VDDQ6 (power), F1 VDDQ7 (power), F2 DQ2 (io), F3 LDQS (io), F7 DQ1 (io), F8 DQ3 (io), F9 VSSQ7 (power), G1 VSSQ8 (power), G2 DQ6 (io), G3 ~{LDQS} (io), G7 VDD3 (power), G8 VSS4 (power), G9 VSSQ9 (power), H1 VREFDQ (in), H2 VDDQ8 (power), H3 DQ4 (io), H7 DQ7 (io), H8 DQ5 (io), H9 VDDQ9 (power), J1 NC_J1, J2 VSS5 (power), J3 ~{RAS} (in), J7 CK (in), J8 VSS6 (power), J9 NC_J9, K1 ODT (in), K2 VDD4 (power), K3 ~{CAS} (in), K7 ~{CK} (in), K8 VDD5 (power), K9 CKE (in), L1 NC_L1, L2 ~{CS} (in), L3 ~{WE} (in), L7 A10/AP (in), L8 ZQ, L9 NC_L9, M1 VSS7 (power), M2 BA0 (in), M3 BA2 (in), M7 NC_M7, M8 VREFCA (in), M9 VSS8 (power), N1 VDD6 (power), N2 A3 (in), N3 A0 (in), N7 A12/~{BC} (in), N8 BA1 (in), N9 VDD7 (power), P1 VSS9 (power), P2 A5 (in), P3 A2 (in), P7 A1 (in), P8 A4 (in), P9 VSS10 (power), R1 VDD8 (power), R2 A7 (in), R3 A9 (in), R7 A11 (in), R8 A6 (in), R9 VDD9 (power), T1 VSS11 (power), T2 ~{RESET} (in), T3 A13 (in), T7 A14 (in), T8 A8 (in), T9 VSS12 (power)
text: 4G_DDR3_SDRAM_256MX16

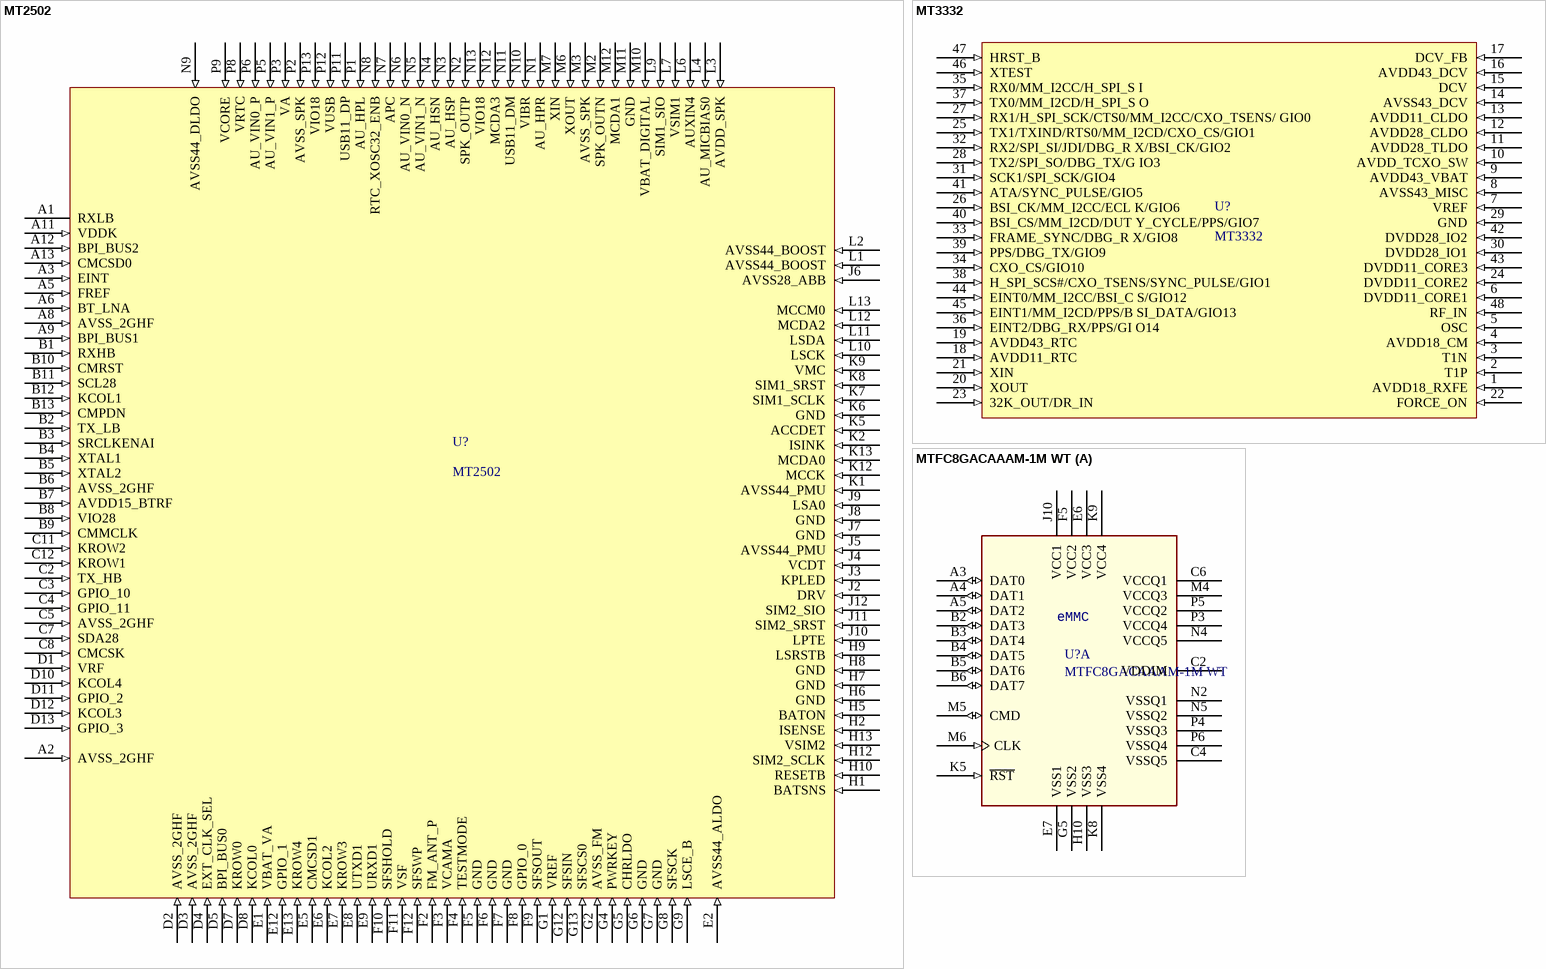
[diagram p21: symbols MT2502 to MTFC8GACAAAM-1M WT]

## MT2502
designator U?
footprint BGA143C40P13X14_540X620X100 (BGA, 143-Leads, Body 5.40x6.20mmx1.00mm, Pitch 0.40mm)
pins: A1 RXLB, A2 AVSS_2GHF (in), A3 EINT (in), A5 FREF (in), A6 BT_LNA (in), A8 AVSS_2GHF (in), A9 BPI_BUS1 (in), A11 VDDK (in), A12 BPI_BUS2 (in), A13 CMCSD0 (in), B1 RXHB (in), B2 TX_LB (in), B3 SRCLKENAI (in), B4 XTAL1 (in), B5 XTAL2 (in), B6 AVSS_2GHF (in), B7 AVDD15_BTRF (in), B8 VIO28 (in), B9 CMMCLK (in), B10 CMRST (in), B11 SCL28 (in), B12 KCOL1 (in), B13 CMPDN (in), C2 TX_HB (in), C3 GPIO_10 (in), C4 GPIO_11 (in), C5 AVSS_2GHF (in), C7 SDA28 (in), C8 CMCSK (in), C11 KROW2 (in), C12 KROW1 (in), D1 VRF (in), D2 AVSS_2GHF (in), D3 AVSS_2GHF (in), D4 EXT_CLK_SEL (in), D5 BPI_BUS0 (in), D7 KROW0 (in), D8 KCOL0 (in), D10 KCOL4 (in), D11 GPIO_2 (in), D12 KCOL3 (in), D13 GPIO_3 (in), E1 VBAT_VA (in), E2 AVSS44_ALDO (in), E5 CMCSD1 (in), E6 KCOL2 (in), E7 KROW3 (in), E8 UTXD1 (in), E9 URXD1 (in), E12 GPIO_1 (in), E13 KROW4 (in), F2 FM_ANT_P (in), F3 VCAMA (in), F4 TESTMODE (in), F5 GND (in), F6 GND (in), F7 GND (in), F8 GPIO_0 (in), F9 SFSOUT (in), F10 SFSHOLD (in), F11 VSF (in), F12 SFSWP (in), G1 VREF (in), G2 AVSS_FM (in), G4 PWRKEY (in), G5 CHRLDO (in), G6 GND (in), G7 GND (in), G8 SFSCK (in), G9 LSCE_B (in), G12 SFSIN (in), G13 SFSCS0 (in), H1 BATSNS (in), H2 ISENSE (in), H5 BATON (in), H6 GND (in), H7 GND (in), H8 GND (in), H9 LSRSTB (in), H10 RESETB (in), H12 SIM2_SCLK (in), H13 VSIM2 (in), J2 DRV (in), J3 KPLED (in), J4 VCDT (in), J5 AVSS44_PMU (in), J6 AVSS28_ABB (in), J7 GND (in), J8 GND (in), J9 LSA0 (in), J10 LPTE (in), J11 SIM2_SRST (in), J12 SIM2_SIO (in), K1 AVSS44_PMU (in), K2 ISINK (in), K5 ACCDET (in), K6 GND (in), K7 SIM1_SCLK (in), K8 SIM1_SRST (in), K9 VMC (in), K12 MCCK (in), K13 MCDA0 (in), L1 AVSS44_BOOST (in), L2 AVSS44_BOOST (in), L3 AVDD_SPK (in), L4 AU_MICBIAS0 (in), L6 AUXIN4 (in), L7 VSIM1 (in), L9 SIM1_SIO (in), L10 LSCK (in), L11 LSDA (in), L12 MCDA2 (in), L13 MCCM0 (in), M2 SPK_OUTN (in), M3 AVSS_SPK (in), M6 XOUT (in), M7 XIN (in), M10 VBAT_DIGITAL (in), M11 GND (in), M12 MCDA1 (in), N1 AU_HPR (in), N2 SPK_OUTP (in), N3 AU_HSP (in), N4 AU_HSN (in), N5 AU_VIN1_N (in), N6 AU_VIN0_N (in), N7 APC (in), N8 RTC_XOSC32_ENB (in), N9 AVSS44_DLDO (in), N10 VIBR (in), N11 USB11_DM (in), N12 MCDA3 (in), N13 VIO18 (in), P1 AU_HPL (in), P2 AVSS_SPK (in), P3 VA (in), P5 AU_VIN1_P (in), P6 AU_VIN0_P (in), P8 VRTC (in), P9 VCORE (in), P11 USB11_DP (in), P12 VUSB (in), P13 VIO18 (in)

## MT3332
designator U?
footprint QFN40P600X600X90_HS-49N (QFN, 48-Leads, Body 6.00x6.00mm, Pitch 0.40mm, Thermal Pad 4.30x4.30mm, IPC Medium Density)
pins: 1 AVDD18_RXFE (in), 2 T1P (in), 3 T1N (in), 4 AVDD18_CM (in), 5 OSC (in), 6 DVDD11_CORE1 (in), 7 VREF (in), 8 AVSS43_MISC (in), 9 AVDD43_VBAT (in), 10 AVDD_TCXO_SW (in), 11 AVDD28_TLDO (in), 12 AVDD28_CLDO (in), 13 AVDD11_CLDO (in), 14 AVSS43_DCV (in), 15 DCV (in), 16 AVDD43_DCV (in), 17 DCV_FB (in), 18 AVDD11_RTC (in), 19 AVDD43_RTC (in), 20 XOUT (in), 21 XIN (in), 22 FORCE_ON (in), 23 32K_OUT/DR_IN (in), 24 DVDD11_CORE2 (in), 25 TX1/TXIND/RTS0/MM_I2CD/CXO_CS/GIO1 (in), 26 BSI_CK/MM_I2CC/ECL K/GIO6 (in), 27 RX1/H_SPI_SCK/CTS0/MM_I2CC/CXO_TSENS/ GIO0 (in), 28 TX2/SPI_SO/DBG_TX/G IO3 (in), 29 GND (in), 30 DVDD28_IO1 (in), 31 SCK1/SPI_SCK/GIO4 (in), 32 RX2/SPI_SI/JDI/DBG_R X/BSI_CK/GIO2 (in), 33 FRAME_SYNC/DBG_R X/GIO8 (in), 34 CXO_CS/GIO10 (in), 35 RX0/MM_I2CC/H_SPI_S I (in), 36 EINT2/DBG_RX/PPS/GI O14 (in), 37 TX0/MM_I2CD/H_SPI_S O (in), 38 H_SPI_SCS#/CXO_TSENS/SYNC_PULSE/GIO1 (in), 39 PPS/DBG_TX/GIO9 (in), 40 BSI_CS/MM_I2CD/DUT Y_CYCLE/PPS/GIO7 (in), 41 ATA/SYNC_PULSE/GIO5 (in), 42 DVDD28_IO2 (in), 43 DVDD11_CORE3 (in), 44 EINT0/MM_I2CC/BSI_C S/GIO12 (in), 45 EINT1/MM_I2CD/PPS/B SI_DATA/GIO13 (in), 46 XTEST (in), 47 HRST_B (in), 48 RF_IN (in)

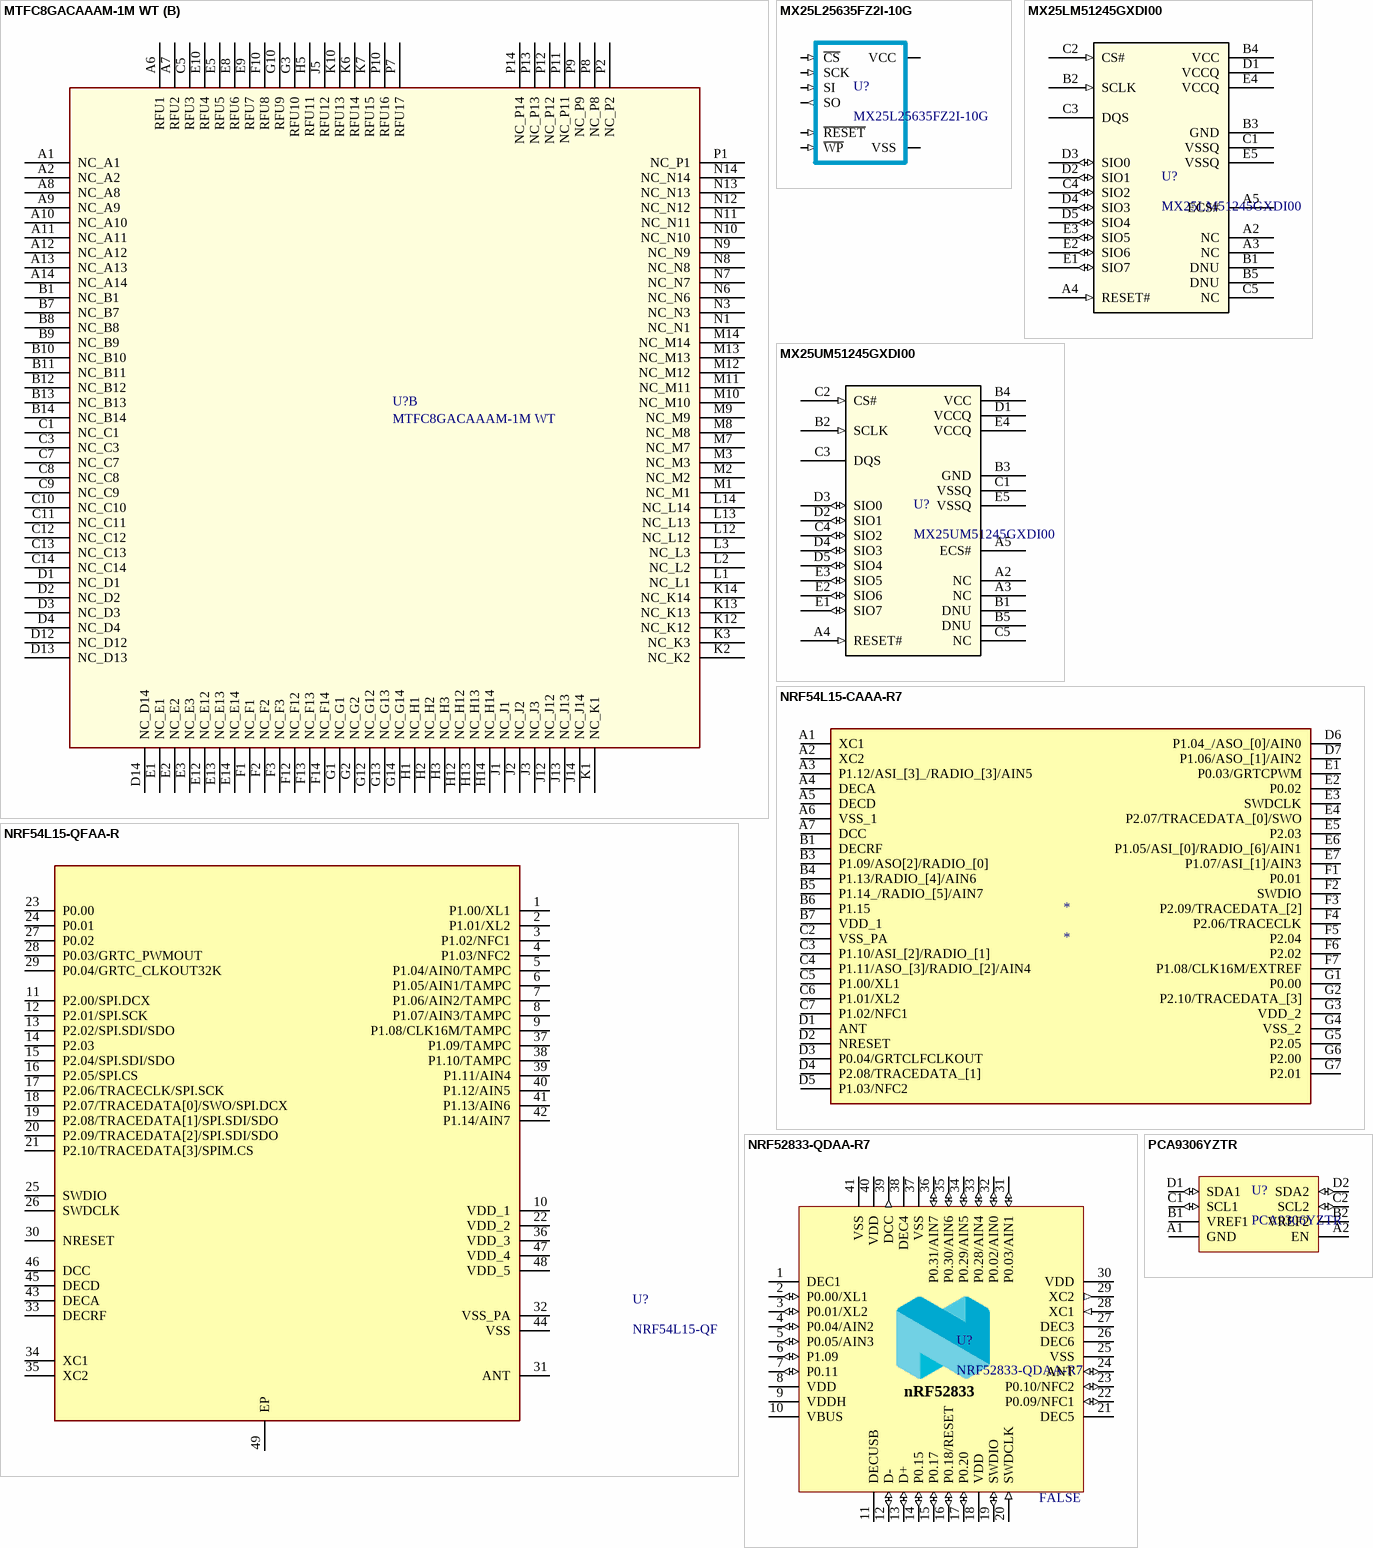
[diagram p22: symbols MTFC8GACAAAM-1M WT to PCA9306YZTR]

## MTFC8GACAAAM-1M WT
designator U?
Flash EMMC 64G; Manufacturer: Micron Technology; ID: 22320638; Supplier 1: Arrow; Manufacturer Part Number: MTFC8GACAAAM-1M WT; RoHS: : Compliant / : Compliant; Stock 1: 1520; Pricing 1: 1=14.073, 10=12.656, 25=11.66, 50=11.426, 100=10.95 (USD); Package Quantity: 1; ComponentLink1URL: https://www.arrow.com/en/products/mtfc8gacaaam-1mwt/micron-technology/; ComponentLink1Description: https://www.arrow.com/en/products/mtfc8gacaaam-1mwt/micron-technology/; Supplier Part Number 1: C6RmT5O8GMQOafYtkx8Xe0IJOE_rwQ5J7d_X9h5w4zcZVywxIBNyoAQstvnyfZZ0
footprint BGA153C50P14X14_1150X1300X80 (BGA, 153-Leads, Body 11.50x13.00mmx0.80mm, Pitch 0.50mm)
ibis J56W_169b (Model Description)
part A pins: A3 DAT0 (io), A4 DAT1 (io), A5 DAT2 (io), B2 DAT3 (io), B3 DAT4 (io), B4 DAT5 (io), B5 DAT6 (io), B6 DAT7 (io), C2 VDDIM (power), C4 VSSQ5 (power), C6 VCCQ1 (power), E6 VCC3 (power), E7 VSS1 (power), F5 VCC2 (power), G5 VSS2 (power), H10 VSS3 (power), J10 VCC1 (power), K5 ~{RST} (in), K8 VSS4 (power), K9 VCC4 (power), M4 VCCQ3 (power), M5 CMD (io), M6 CLK (in), N2 VSSQ1 (power), N4 VCCQ5 (power), N5 VSSQ2 (power), P3 VCCQ4 (power), P4 VSSQ3 (power), P5 VCCQ2 (power), P6 VSSQ4 (power)
part B pins: A1 NC_A1, A2 NC_A2, A6 RFU1, A7 RFU2, A8 NC_A8, A9 NC_A9, A10 NC_A10, A11 NC_A11, A12 NC_A12, A13 NC_A13, A14 NC_A14, B1 NC_B1, B7 NC_B7, B8 NC_B8, B9 NC_B9, B10 NC_B10, B11 NC_B11, B12 NC_B12, B13 NC_B13, B14 NC_B14, C1 NC_C1, C3 NC_C3, C5 RFU3, C7 NC_C7, C8 NC_C8, C9 NC_C9, C10 NC_C10, C11 NC_C11, C12 NC_C12, C13 NC_C13, C14 NC_C14, D1 NC_D1, D2 NC_D2, D3 NC_D3, D4 NC_D4, D12 NC_D12, D13 NC_D13, D14 NC_D14, E1 NC_E1, E2 NC_E2, E3 NC_E3, E5 RFU5, E8 RFU6, E9 RFU7, E10 RFU4, E12 NC_E12, E13 NC_E13, E14 NC_E14, F1 NC_F1, F2 NC_F2, F3 NC_F3, F10 RFU8, F12 NC_F12, F13 NC_F13, F14 NC_F14, G1 NC_G1, G2 NC_G2, G3 RFU10, G10 RFU9, G12 NC_G12, G13 NC_G13, G14 NC_G14, H1 NC_H1, H2 NC_H2, H3 NC_H3, H5 RFU11, H12 NC_H12, H13 NC_H13, H14 NC_H14, J1 NC_J1, J2 NC_J2, J3 NC_J3, J5 RFU12, J12 NC_J12, J13 NC_J13, J14 NC_J14, K1 NC_K1, K2 NC_K2, K3 NC_K3, K6 RFU14, K7 RFU15, K10 RFU13, K12 NC_K12, K13 NC_K13, K14 NC_K14, L1 NC_L1, L2 NC_L2, L3 NC_L3, L12 NC_L12, L13 NC_L13, L14 NC_L14, M1 NC_M1, M2 NC_M2, M3 NC_M3, M7 NC_M7, M8 NC_M8, M9 NC_M9, M10 NC_M10, M11 NC_M11, M12 NC_M12, M13 NC_M13, M14 NC_M14, N1 NC_N1, N3 NC_N3, N6 NC_N6, N7 NC_N7, N8 NC_N8, N9 NC_N9, N10 NC_N10, N11 NC_N11, N12 NC_N12, N13 NC_N13, N14 NC_N14, P1 NC_P1, P2 NC_P2, P7 RFU17, P8 NC_P8, P9 NC_P9, P10 RFU16, P11 NC_P11, P12 NC_P12, P13 NC_P13, P14 NC_P14
part A text: eMMC

## MX25L25635FZ2I-10G
designator U?
IC FLASH 256MBIT 104MHZ 8WSON; Manufacturer: Macronix; Memory Type: Non-Volatile; Memory Size: 256Mb (32M x 8); Write Cycle Time - Word, Page: 30µs, 3ms; Memory Interface: SPI; Voltage - Supply: 2.7 V ~ 3.6 V; Supplier 1: Digi-Key; Manufacturer Part Number: MX25L25635FZ2I-10G; RoHS: RoHS Compliant; Category: Integrated Circuits (ICs); Stock: 0; Pricing: 1=6.07, 500=4.61358 (USD); Packaging: Tray; Part Status: Active; Memory Format: FLASH; Technology: FLASH - NOR; Operating Temperature: -40°C ~ 85°C (TA); Mounting Type: Surface Mount; Package / Case: 8-WDFN Exposed Pad; Supplier Device Package: 8-WSON (8x6); ComponentLink1URL: http://media.digikey.com/pdf/Data%20Sheets/Macronix/MX25L25635F.pdf; ComponentLink1Description: http://media.digikey.com/pdf/Data%20Sheets/Macronix/MX25L25635F.pdf; Supplier Part Number 1: 1092-1150-ND
footprint PSON127P800X80_HS-9N (PSON, 8-Leads, Body 6.00x8.00mm, Pitch 1.27mm, Thermal Pad 4.70x4.60mm, IPC Medium Density)
pins: 1 ~{CS} (in), 2 SO (out), 3 ~{WP} (in), 4 VSS (power), 5 SI (in), 6 SCK (in), 7 ~{RESET} (in), 8 VCC (power)

## MX25LM51245GXDI00
designator U?
IC Flash 512MBIT Spi/quad 24BGA; Manufacturer: Macronix; Supplier: Digi-Key; Supplier Part Number: 1092-1248-ND; Manufacturer Part Number: MX25LM51245GXDI00; RoHS: Yes; Category: Memory; Stock: 1091; Pricing: 1=9,28, 10=8,595, 25=8,4, 40=8,355, 80=7,355, 230=6,99, 480=6,92, 960=6,69 (USD); ComponentLink1URL: http://www.macronix.com/Lists/Datasheet/Attachments/7417/MX25LM51245G,%203V,%20512Mb,%20v1.0.pdf?src-supplier=Digi-Key; ComponentLink1Description: http://www.macronix.com/Lists/Datasheet/Attachments/7417/MX25LM51245G,%203V,%20512Mb,%20v1.0.pdf?src-supplier=Digi-Key; Supplier 1: Digi-Key; Supplier Part Number 1: 1092-1248-ND
pins: A2 NC, A3 NC, A4 RESET# (in), A5 ECS#, B1 DNU, B2 SCLK (in), B3 GND (power), B4 VCC (power), B5 DNU, C1 VSSQ (power), C2 CS# (in), C3 DQS, C4 SIO2 (io), C5 NC, D1 VCCQ (power), D2 SIO1 (io), D3 SIO0 (io), D4 SIO3 (io), D5 SIO4 (io), E1 SIO7 (io), E2 SIO6 (io), E3 SIO5 (io), E4 VCCQ (power), E5 VSSQ (power)

## MX25UM51245GXDI00
designator U?
NOR Flash Memory 512Mb 1.8V Octa I/O Serial 24-Pin BGA; Manufacturer: Macronix; Supplier: Farnell; Supplier Part Number: 3129239; Manufacturer Part Number: MX25UM51245GXDI00; RoHS: Yes; Category: Memory; Stock: 733; Pricing: 1=9,9, 10=8,53, 25=8,29, 50=7,3, 100=6,94, 250=6,86 (EUR); RoHS Compliant: Yes; ComponentLink1URL: http://www.macronix.com/Lists/Datasheet/Attachments/7558/MX25UM51245G,%201.8V,%20512Mb,%20v1.3.pdf?src-supplier=Digi-Key; ComponentLink1Description: http://www.macronix.com/Lists/Datasheet/Attachments/7558/MX25UM51245G,%201.8V,%20512Mb,%20v1.3.pdf?src-supplier=Digi-Key; Supplier 1: Farnell; Supplier Part Number 1: 3129239; Supplier 2: Digi-Key; Supplier Part Number 2: 1092-1253-ND
footprint BGA24C100P5X5_600X800X120_2 (BGA, 24-Leads, Body 6,00x8,00mmx1,20mm, Pitch 1,00mm)
pins: A2 NC, A3 NC, A4 RESET# (in), A5 ECS#, B1 DNU, B2 SCLK (in), B3 GND (power), B4 VCC (power), B5 DNU, C1 VSSQ (power), C2 CS# (in), C3 DQS, C4 SIO2 (io), C5 NC, D1 VCCQ (power), D2 SIO1 (io), D3 SIO0 (io), D4 SIO3 (io), D5 SIO4 (io), E1 SIO7 (io), E2 SIO6 (io), E3 SIO5 (io), E4 VCCQ (power), E5 VSSQ (power)

## NRF54L15-CAAA-R7
designator *
Ultra Low Power Bluetooth SoC; Manufacturer: Nordic Semiconductor; Manufacturer Part Number: NRF54L15-CAAA-R7; Supplier: Digikey; Supplier Part Number: 4823-NRF54L15-CAAA-R7CT-ND; RoHS: No; Pricing: 1=3.37 (USD)
footprint BGA47C30P7X7_245X224X36 (BGA, 47-Leads, Body 2.45x2.25mmx0.36mm, Pitch 0.30mm)
pins: A1 XC1, A2 XC2, A3 P1.12/ASI_[3]_/RADIO_[3]/AIN5, A4 DECA, A5 DECD, A6 VSS_1, A7 DCC, B1 DECRF, B3 P1.09/ASO[2]/RADIO_[0], B4 P1.13/RADIO_[4]/AIN6, B5 P1.14_/RADIO_[5]/AIN7, B6 P1.15, B7 VDD_1, C2 VSS_PA, C3 P1.10/ASI_[2]/RADIO_[1], C4 P1.11/ASO_[3]/RADIO_[2]/AIN4, C5 P1.00/XL1, C6 P1.01/XL2, C7 P1.02/NFC1, D1 ANT, D2 NRESET, D3 P0.04/GRTCLFCLKOUT, D4 P2.08/TRACEDATA_[1], D5 P1.03/NFC2, D6 P1.04_/ASO_[0]/AIN0, D7 P1.06/ASO_[1]/AIN2, E1 P0.03/GRTCPWM, E2 P0.02, E3 SWDCLK, E4 P2.07/TRACEDATA_[0]/SWO, E5 P2.03, E6 P1.05/ASI_[0]/RADIO_[6]/AIN1, E7 P1.07/ASI_[1]/AIN3, F1 P0.01, F2 SWDIO, F3 P2.09/TRACEDATA_[2], F4 P2.06/TRACECLK, F5 P2.04, F6 P2.02, F7 P1.08/CLK16M/EXTREF, G1 P0.00, G2 P2.10/TRACEDATA_[3], G3 VDD_2, G4 VSS_2, G5 P2.05, G6 P2.00, G7 P2.01

## NRF54L15-QFAA-R
designator U?, comment NRF54L15-QF
nRF54L15 SoC with Arm Cortex-M33 processor; Manufacturer: Nordic Semiconductor; Manufacturer Part Number: NRF54L15-QFAA-R; Supplier: Mouser; Supplier Part Number: 949-NRF54L15-QFAA-R; RoHS: No; Category: RF Receivers, Transceivers; Stock: 719; Pricing: 1=6.84, 10=6.11, 50=6.11, 100=5.02, 1000=3.62, 10000=3.07 (USD)
footprint QFN40P600X600X95-49N
pins: 1 P1.00/XL1, 2 P1.01/XL2, 3 P1.02/NFC1, 4 P1.03/NFC2, 5 P1.04/AIN0/TAMPC, 6 P1.05/AIN1/TAMPC, 7 P1.06/AIN2/TAMPC, 8 P1.07/AIN3/TAMPC, 9 P1.08/CLK16M/TAMPC, 10 VDD_1, 11 P2.00/SPI.DCX, 12 P2.01/SPI.SCK, 13 P2.02/SPI.SDI/SDO, 14 P2.03, 15 P2.04/SPI.SDI/SDO, 16 P2.05/SPI.CS, 17 P2.06/TRACECLK/SPI.SCK, 18 P2.07/TRACEDATA[0]/SWO/SPI.DCX, 19 P2.08/TRACEDATA[1]/SPI.SDI/SDO, 20 P2.09/TRACEDATA[2]/SPI.SDI/SDO, 21 P2.10/TRACEDATA[3]/SPIM.CS, 22 VDD_2, 23 P0.00, 24 P0.01, 25 SWDIO, 26 SWDCLK, 27 P0.02, 28 P0.03/GRTC_PWMOUT, 29 P0.04/GRTC_CLKOUT32K, 30 NRESET, 31 ANT, 32 VSS_PA, 33 DECRF, 34 XC1, 35 XC2, 36 VDD_3, 37 P1.09/TAMPC, 38 P1.10/TAMPC, 39 P1.11/AIN4, 40 P1.12/AIN5, 41 P1.13/AIN6, 42 P1.14/AIN7, 43 DECA, 44 VSS, 45 DECD, 46 DCC, 47 VDD_4, 48 VDD_5, 49 EP

## NRF52833-QDAA-R7
designator U?  Checked: FALSE
2MBPS 802.15.4, Bluetooth 2.4GHZ Adc, I2S, Pwm, Spi, Uart, Usb QFN-40-EP(5X5) Rf Transceiver Ics Rohs; Manufacturer: Nordic Semiconductor; Supplier: Digikey; Supplier Part Number: 4823-NRF52833-QDAA-R7CT-ND; Manufacturer Part Number: NRF52833-QDAA-R7; RoHS: No; Category: RF Receivers, Transceivers; Stock: 3574; Pricing: 1=4.12, 100=3.52, 500=3.05 (USD); Supplier 1: Digikey; Supplier Part Number 1: 4823-NRF52833-QDAA-R7DKR-ND; Supplier 2: Digikey; Supplier Part Number 2: 4823-NRF52833-QDAA-R7TR-ND; Supplier 3: Mouser; Supplier Part Number 3: 949-NRF52833-QDAA-R7
footprint QFN40P500X500X90_HS-41N (QFN, 40-Leads, Body 5.00x5.00mm, Pitch 0.40mm, Thermal Pad 3.60x3.60mm, IPC Medium Density)
pins: 1 DEC1 (power), 2 P0.00/XL1 (io), 3 P0.01/XL2 (io), 4 P0.04/AIN2 (io), 5 P0.05/AIN3 (io), 6 P1.09 (io), 7 P0.11 (io), 8 VDD (power), 9 VDDH (power), 10 VBUS (power), 11 DECUSB (power), 12 D- (io), 13 D+ (io), 14 P0.15 (io), 15 P0.17 (io), 16 P0.18/RESET (io), 17 P0.20 (io), 18 VDD (power), 19 SWDIO (io), 20 SWDCLK (in), 21 DEC5 (power), 22 P0.09/NFC1 (io), 23 P0.10/NFC2 (io), 24 ANT (io), 25 VSS (power), 26 DEC6 (power), 27 DEC3 (power), 28 XC1 (in), 29 XC2 (out), 30 VDD (power), 31 P0.03/AIN1 (io), 32 P0.02/AIN0 (io), 33 P0.28/AIN4 (io), 34 P0.29/AIN5 (io), 35 P0.30/AIN6 (io), 36 P0.31/AIN7 (io), 37 VSS (power), 38 DEC4 (power), 39 DCC (out), 40 VDD (power), 41 VSS (power)
text: nRF52833